# Altium integrated library motor-control.IntLib: 655 symbols (part 2 of 4)
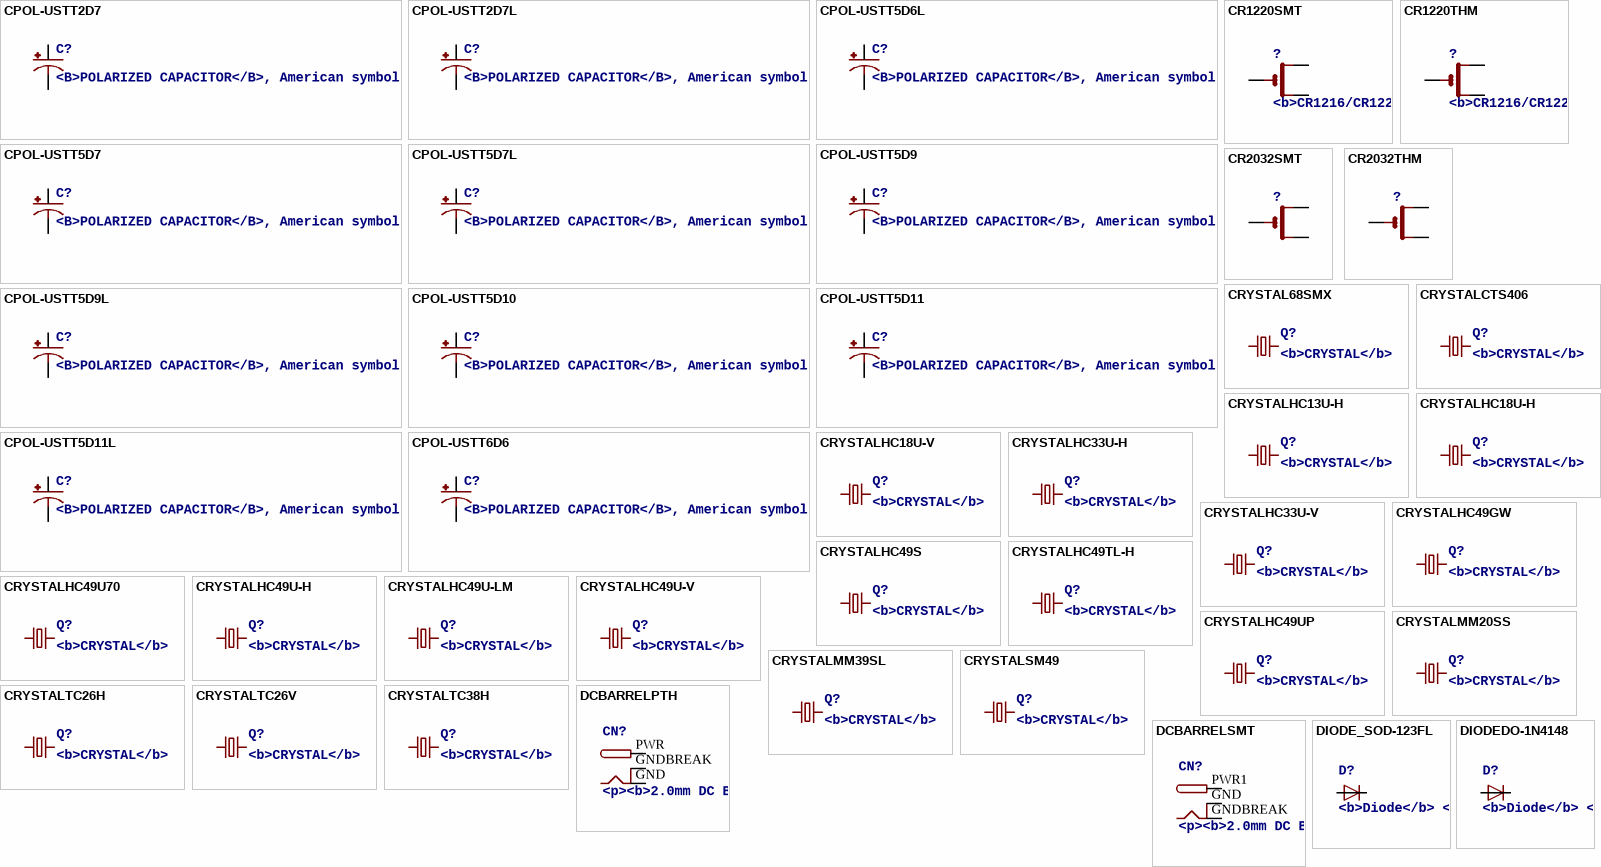
[diagram p32: symbols CPOL-USTT2D7 to DIODEDO-1N4148]

## CPOL-USTT5D11
designator C?, comment <B>POLARIZED CAPACITOR</B>, American symbol
footprint TT5D11
pins: +, -

## CPOL-USTT5D11L
designator C?, comment <B>POLARIZED CAPACITOR</B>, American symbol
footprint TT5D11L
pins: +, -

## CPOL-USTT6D6
designator C?, comment <B>POLARIZED CAPACITOR</B>, American symbol
footprint TT5D6
pins: +, -

## CR1220SMT
designator ?, comment <b>CR1216/CR1220/CR1225 12mm 3V lithium coin cell </b> / <p> / Great for battery packup. Both SMT and THM holders. / <br> / Note the THM package has the ground pads on both sides of the PCB so that the masks are the same - this reduces the cost
footprint CR1220-SMD
pins: +$1 +, +$2 +1, -

## CR1220THM
designator ?, comment <b>CR1216/CR1220/CR1225 12mm 3V lithium coin cell </b> / <p> / Great for battery packup. Both SMT and THM holders. / <br> / Note the THM package has the ground pads on both sides of the PCB so that the masks are the same - this reduces the cost
footprint CR1220-THM
pins: +1 +, +2 +1, -

## CR2032SMT
designator ?
footprint CR2032-SMD
pins: +$1 +, +$2 +1, -

## CR2032THM
designator ?
footprint CR2032-THRU
pins: +1 +, +2 +1, -

## CRYSTAL68SMX
designator Q?, comment <b>CRYSTAL</b>
OC_FARNELL: 6344860; OC_NEWARK: unknown
footprint 86SMX
pins: 1, 4 2

## CRYSTALCTS406
designator Q?, comment <b>CRYSTAL</b>
OC_FARNELL: unknown; OC_NEWARK: unknown
footprint CTS406
pins: 1, 3 2

## CRYSTALHC13U-H
designator Q?, comment <b>CRYSTAL</b>
OC_FARNELL: unknown; OC_NEWARK: unknown
footprint HC13U-H
pins: 1, 2

## CRYSTALHC18U-H
designator Q?, comment <b>CRYSTAL</b>
OC_FARNELL: unknown; OC_NEWARK: unknown
footprint HC18U-H
pins: 1, 2

## CRYSTALHC18U-V
designator Q?, comment <b>CRYSTAL</b>
OC_FARNELL: unknown; OC_NEWARK: unknown
footprint HC18U-V
pins: 1, 2

## CRYSTALHC33U-H
designator Q?, comment <b>CRYSTAL</b>
OC_FARNELL: unknown; OC_NEWARK: unknown
footprint HC33U-H
pins: 1, 2

## CRYSTALHC33U-V
designator Q?, comment <b>CRYSTAL</b>
OC_FARNELL: unknown; OC_NEWARK: unknown
footprint HC33U-V
pins: 1, 2

## CRYSTALHC49GW
designator Q?, comment <b>CRYSTAL</b>
OC_FARNELL: unknown; OC_NEWARK: unknown
footprint HC49GW
pins: 1, 2

## CRYSTALHC49S
designator Q?, comment <b>CRYSTAL</b>
OC_FARNELL: 1667008; OC_NEWARK: unknown
footprint HC49/S
pins: 1, 2

## CRYSTALHC49TL-H
designator Q?, comment <b>CRYSTAL</b>
OC_FARNELL: unknown; OC_NEWARK: unknown
footprint HC49TL-H
pins: 1, 2

## CRYSTALHC49U70
designator Q?, comment <b>CRYSTAL</b>
OC_FARNELL: unknown; OC_NEWARK: unknown
footprint HC49U70
pins: 1, 2

## CRYSTALHC49U-H
designator Q?, comment <b>CRYSTAL</b>
OC_FARNELL: 1666973; OC_NEWARK: unknown
footprint HC49U-H
pins: 1, 2

## CRYSTALHC49U-LM
designator Q?, comment <b>CRYSTAL</b>
OC_FARNELL: 1666956; OC_NEWARK: unknown
footprint HC49U-LM
pins: 1, 2

## CRYSTALHC49U-V
designator Q?, comment <b>CRYSTAL</b>
OC_FARNELL: 1666969; OC_NEWARK: unknown
footprint HC49U-V
pins: 1, 2

## CRYSTALHC49UP
designator Q?, comment <b>CRYSTAL</b>
OC_FARNELL: unknown; OC_NEWARK: unknown
footprint HC49UP
pins: 1, 2

## CRYSTALMM20SS
designator Q?, comment <b>CRYSTAL</b>
OC_FARNELL: unknown; OC_NEWARK: unknown
footprint MM20SS
pins: 1, 4 2

## CRYSTALMM39SL
designator Q?, comment <b>CRYSTAL</b>
OC_FARNELL: unknown; OC_NEWARK: unknown
footprint MM39SL
pins: 1, 4 2

## CRYSTALSM49
designator Q?, comment <b>CRYSTAL</b>
OC_FARNELL: unknown; OC_NEWARK: unknown
footprint SM49
pins: 1, 2

## CRYSTALTC26H
designator Q?, comment <b>CRYSTAL</b>
OC_FARNELL: unknown; OC_NEWARK: unknown
footprint TC26H
pins: 1, 2

## CRYSTALTC26V
designator Q?, comment <b>CRYSTAL</b>
OC_FARNELL: unknown; OC_NEWARK: unknown
footprint TC26V
pins: 1, 2

## CRYSTALTC38H
designator Q?, comment <b>CRYSTAL</b>
OC_FARNELL: unknown; OC_NEWARK: unknown
footprint TC38H
pins: 1, 2

## DCBARRELPTH
designator CN?, comment <p><b>2.0mm DC Barrel Jack</b></p> / <b>DCJACK_2MM_PTH</b> - Through Hole Jack (4UConnector: 05537)
footprint DCJACK_2MM_PTH
pins: GND (power), GNDBREAK (power), PWR (power)

## DCBARRELSMT
designator CN?, comment <p><b>2.0mm DC Barrel Jack</b></p> / <b>DCJACK_2MM_PTH</b> - Through Hole Jack (4UConnector: 05537)
footprint DCJACK_2MM_SMT
pins: GND GNDBREAK (power), GNDBREAK GND (power), PWR1 PWR (power)

## DIODE_SOD-123FL
designator D?, comment <b>Diode</b> / <p> / <b>SMADIODE</b> - SMA Surface Mount Package / <ul> / <li>20V 1A Schottky Diode Digikey: 641-1014-6-ND</li> / </ul> / <b>DO-1N4148</b> - Through Hole Small Current Diode<br> / <b>SOD-123</b> / <ul> / <li>20V 1 A (.5mV Vf) Schottky Diode - Digikey: MBRX120TPMSCT-ND</li> / </ul> / <b>SOD-323</b> / <ul> / <li>10V 570mA (.38mV Vf, 3ns) Schottky Diode - Digikey: ZLLS410CT-ND</li> / </ul> / <b>SOD-523</b> / <ul> / <li>30V 30mA Schottky Diode (RB751S-40TE61) - Digikey: RB751S-40TE61CT-ND</li> / </ul> / <b>SOT23-R/W</b> - SOT23 Package (R = Solder Paste/Reflow Ovens, W = Hand-Soldering) / <ul> / <li>BAT54Film 40V 300mA - Digikey: 497-7162-1-ND</li> / </ul> / </p>
footprint SOD-123FL
pins: A, C

## DIODEDO-1N4148
designator D?, comment <b>Diode</b> / <p> / <b>SMADIODE</b> - SMA Surface Mount Package / <ul> / <li>20V 1A Schottky Diode Digikey: 641-1014-6-ND</li> / </ul> / <b>DO-1N4148</b> - Through Hole Small Current Diode<br> / <b>SOD-123</b> / <ul> / <li>20V 1 A (.5mV Vf) Schottky Diode - Digikey: MBRX120TPMSCT-ND</li> / </ul> / <b>SOD-323</b> / <ul> / <li>10V 570mA (.38mV Vf, 3ns) Schottky Diode - Digikey: ZLLS410CT-ND</li> / </ul> / <b>SOD-523</b> / <ul> / <li>30V 30mA Schottky Diode (RB751S-40TE61) - Digikey: RB751S-40TE61CT-ND</li> / </ul> / <b>SOT23-R/W</b> - SOT23 Package (R = Solder Paste/Reflow Ovens, W = Hand-Soldering) / <ul> / <li>BAT54Film 40V 300mA - Digikey: 497-7162-1-ND</li> / </ul> / </p>
footprint DO-1N4148
pins: A, C

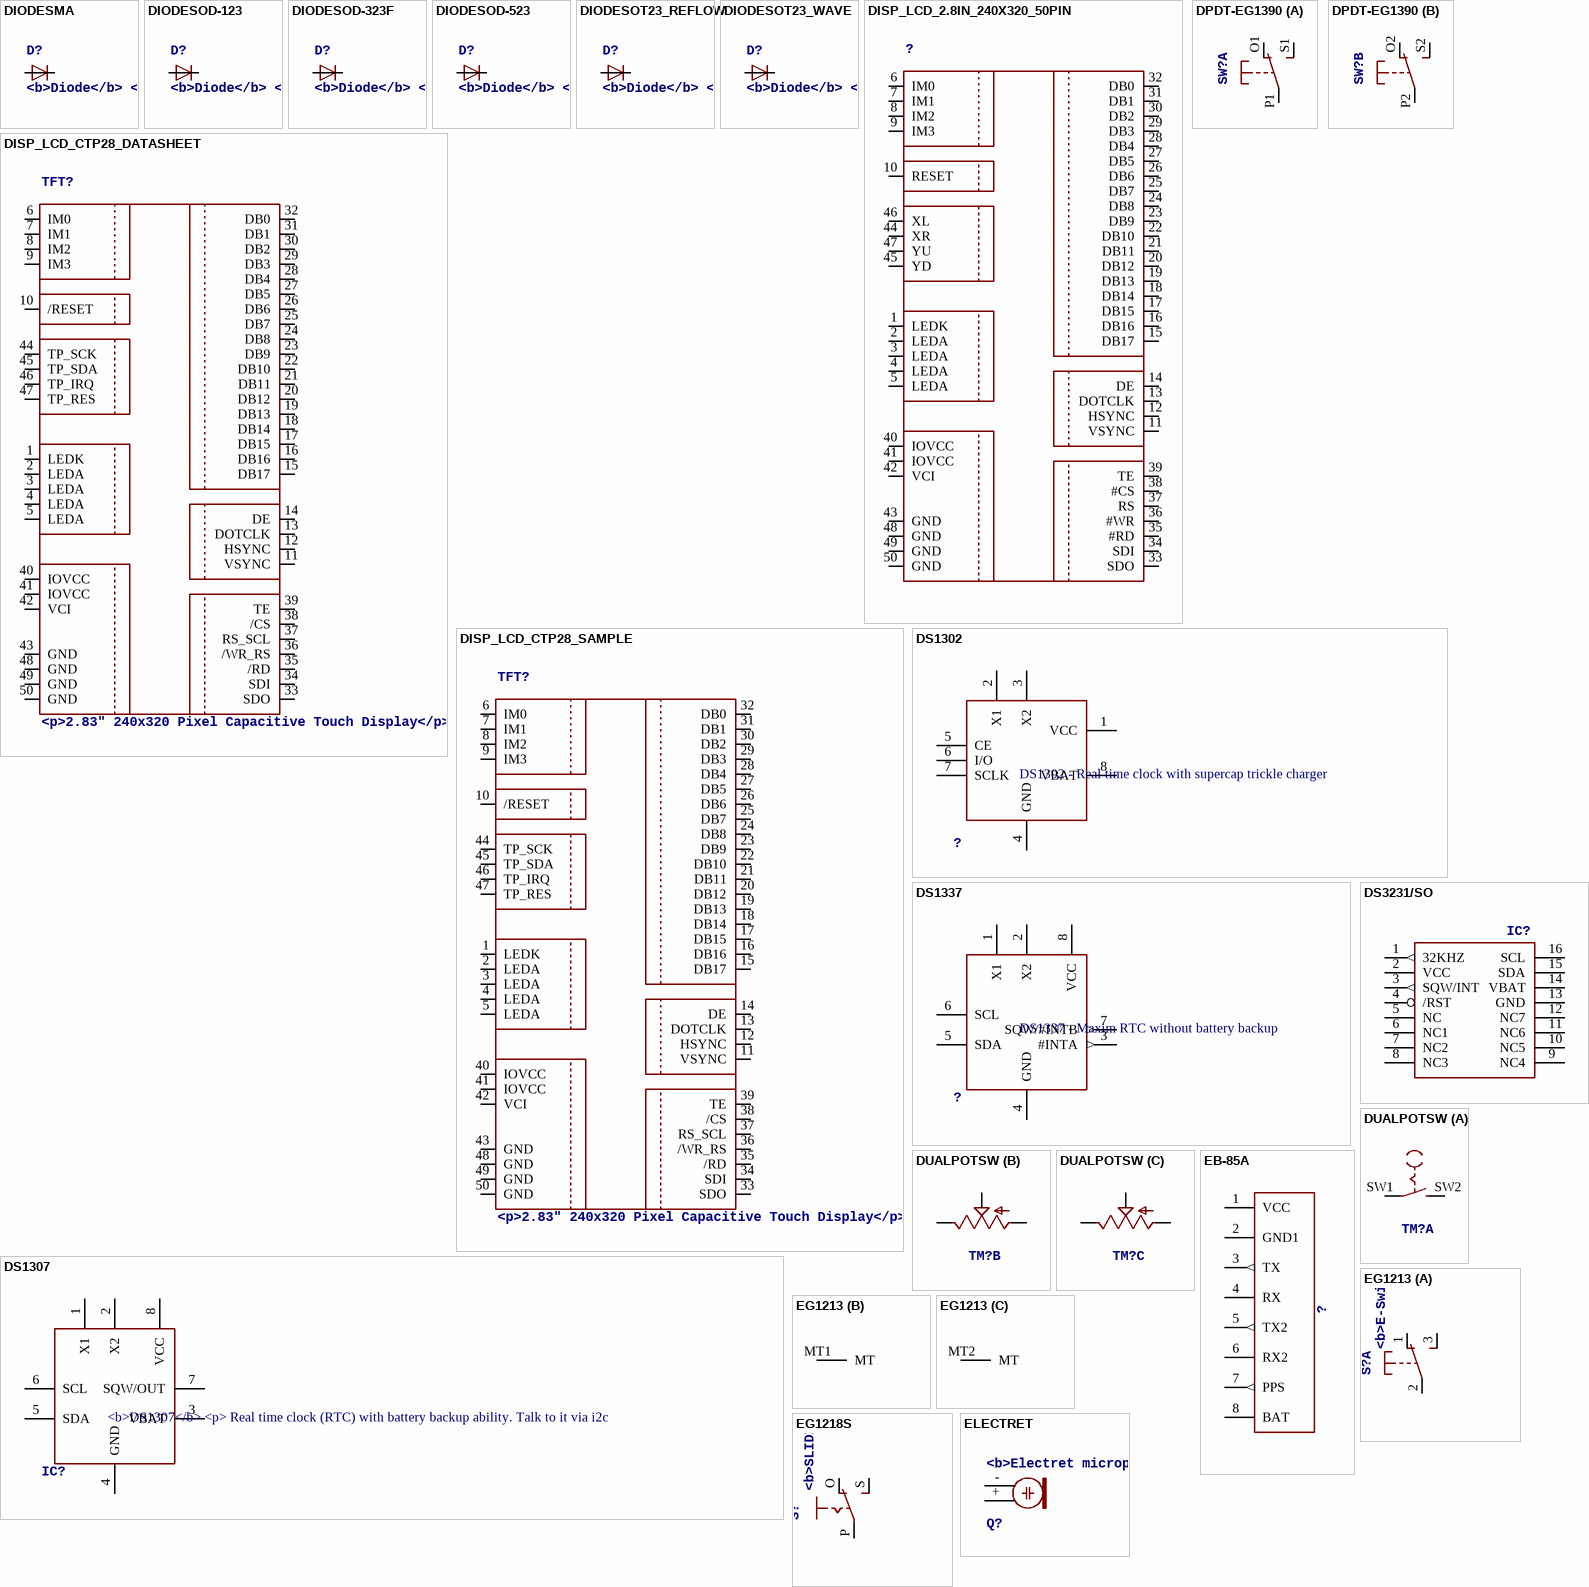
[diagram p17: symbols DIODESMA to ELECTRET]

## DIODESMA
designator D?, comment <b>Diode</b> / <p> / <b>SMADIODE</b> - SMA Surface Mount Package / <ul> / <li>20V 1A Schottky Diode Digikey: 641-1014-6-ND</li> / </ul> / <b>DO-1N4148</b> - Through Hole Small Current Diode<br> / <b>SOD-123</b> / <ul> / <li>20V 1 A (.5mV Vf) Schottky Diode - Digikey: MBRX120TPMSCT-ND</li> / </ul> / <b>SOD-323</b> / <ul> / <li>10V 570mA (.38mV Vf, 3ns) Schottky Diode - Digikey: ZLLS410CT-ND</li> / </ul> / <b>SOD-523</b> / <ul> / <li>30V 30mA Schottky Diode (RB751S-40TE61) - Digikey: RB751S-40TE61CT-ND</li> / </ul> / <b>SOT23-R/W</b> - SOT23 Package (R = Solder Paste/Reflow Ovens, W = Hand-Soldering) / <ul> / <li>BAT54Film 40V 300mA - Digikey: 497-7162-1-ND</li> / </ul> / </p>
footprint SMADIODE
pins: A, C

## DIODESOD-123
designator D?, comment <b>Diode</b> / <p> / <b>SMADIODE</b> - SMA Surface Mount Package / <ul> / <li>20V 1A Schottky Diode Digikey: 641-1014-6-ND</li> / </ul> / <b>DO-1N4148</b> - Through Hole Small Current Diode<br> / <b>SOD-123</b> / <ul> / <li>20V 1 A (.5mV Vf) Schottky Diode - Digikey: MBRX120TPMSCT-ND</li> / </ul> / <b>SOD-323</b> / <ul> / <li>10V 570mA (.38mV Vf, 3ns) Schottky Diode - Digikey: ZLLS410CT-ND</li> / </ul> / <b>SOD-523</b> / <ul> / <li>30V 30mA Schottky Diode (RB751S-40TE61) - Digikey: RB751S-40TE61CT-ND</li> / </ul> / <b>SOT23-R/W</b> - SOT23 Package (R = Solder Paste/Reflow Ovens, W = Hand-Soldering) / <ul> / <li>BAT54Film 40V 300mA - Digikey: 497-7162-1-ND</li> / </ul> / </p>
footprint SOD-123
pins: A, C

## DIODESOD-323F
designator D?, comment <b>Diode</b> / <p> / <b>SMADIODE</b> - SMA Surface Mount Package / <ul> / <li>20V 1A Schottky Diode Digikey: 641-1014-6-ND</li> / </ul> / <b>DO-1N4148</b> - Through Hole Small Current Diode<br> / <b>SOD-123</b> / <ul> / <li>20V 1 A (.5mV Vf) Schottky Diode - Digikey: MBRX120TPMSCT-ND</li> / </ul> / <b>SOD-323</b> / <ul> / <li>10V 570mA (.38mV Vf, 3ns) Schottky Diode - Digikey: ZLLS410CT-ND</li> / </ul> / <b>SOD-523</b> / <ul> / <li>30V 30mA Schottky Diode (RB751S-40TE61) - Digikey: RB751S-40TE61CT-ND</li> / </ul> / <b>SOT23-R/W</b> - SOT23 Package (R = Solder Paste/Reflow Ovens, W = Hand-Soldering) / <ul> / <li>BAT54Film 40V 300mA - Digikey: 497-7162-1-ND</li> / </ul> / </p>
footprint SOD-323F
pins: A, C

## DIODESOD-523
designator D?, comment <b>Diode</b> / <p> / <b>SMADIODE</b> - SMA Surface Mount Package / <ul> / <li>20V 1A Schottky Diode Digikey: 641-1014-6-ND</li> / </ul> / <b>DO-1N4148</b> - Through Hole Small Current Diode<br> / <b>SOD-123</b> / <ul> / <li>20V 1 A (.5mV Vf) Schottky Diode - Digikey: MBRX120TPMSCT-ND</li> / </ul> / <b>SOD-323</b> / <ul> / <li>10V 570mA (.38mV Vf, 3ns) Schottky Diode - Digikey: ZLLS410CT-ND</li> / </ul> / <b>SOD-523</b> / <ul> / <li>30V 30mA Schottky Diode (RB751S-40TE61) - Digikey: RB751S-40TE61CT-ND</li> / </ul> / <b>SOT23-R/W</b> - SOT23 Package (R = Solder Paste/Reflow Ovens, W = Hand-Soldering) / <ul> / <li>BAT54Film 40V 300mA - Digikey: 497-7162-1-ND</li> / </ul> / </p>
footprint SOD-523
pins: A, K C

## DIODESOT23_REFLOW
designator D?, comment <b>Diode</b> / <p> / <b>SMADIODE</b> - SMA Surface Mount Package / <ul> / <li>20V 1A Schottky Diode Digikey: 641-1014-6-ND</li> / </ul> / <b>DO-1N4148</b> - Through Hole Small Current Diode<br> / <b>SOD-123</b> / <ul> / <li>20V 1 A (.5mV Vf) Schottky Diode - Digikey: MBRX120TPMSCT-ND</li> / </ul> / <b>SOD-323</b> / <ul> / <li>10V 570mA (.38mV Vf, 3ns) Schottky Diode - Digikey: ZLLS410CT-ND</li> / </ul> / <b>SOD-523</b> / <ul> / <li>30V 30mA Schottky Diode (RB751S-40TE61) - Digikey: RB751S-40TE61CT-ND</li> / </ul> / <b>SOT23-R/W</b> - SOT23 Package (R = Solder Paste/Reflow Ovens, W = Hand-Soldering) / <ul> / <li>BAT54Film 40V 300mA - Digikey: 497-7162-1-ND</li> / </ul> / </p>
footprint SOT23-R
pins: 1 A, 3 C

## DIODESOT23_WAVE
designator D?, comment <b>Diode</b> / <p> / <b>SMADIODE</b> - SMA Surface Mount Package / <ul> / <li>20V 1A Schottky Diode Digikey: 641-1014-6-ND</li> / </ul> / <b>DO-1N4148</b> - Through Hole Small Current Diode<br> / <b>SOD-123</b> / <ul> / <li>20V 1 A (.5mV Vf) Schottky Diode - Digikey: MBRX120TPMSCT-ND</li> / </ul> / <b>SOD-323</b> / <ul> / <li>10V 570mA (.38mV Vf, 3ns) Schottky Diode - Digikey: ZLLS410CT-ND</li> / </ul> / <b>SOD-523</b> / <ul> / <li>30V 30mA Schottky Diode (RB751S-40TE61) - Digikey: RB751S-40TE61CT-ND</li> / </ul> / <b>SOT23-R/W</b> - SOT23 Package (R = Solder Paste/Reflow Ovens, W = Hand-Soldering) / <ul> / <li>BAT54Film 40V 300mA - Digikey: 497-7162-1-ND</li> / </ul> / </p>
footprint SOT23-W
pins: 1 A, 3 C

## DISP_LCD_2.8IN_240X320_50PIN
designator ?
footprint TFT_2.83IN_240X320_50PIN
pins: 1 LEDK, 2 LEDA, 3 LEDA, 4 LEDA, 5 LEDA, 6 IM0, 7 IM1, 8 IM2, 9 IM3, 10 RESET, 11 VSYNC, 12 HSYNC, 13 DOTCLK, 14 DE, 15 DB17, 16 DB16, 17 DB15, 18 DB14, 19 DB13, 20 DB12, 21 DB11, 22 DB10, 23 DB9, 24 DB8, 25 DB7, 26 DB6, 27 DB5, 28 DB4, 29 DB3, 30 DB2, 31 DB1, 32 DB0, 33 SDO, 34 SDI, 35 #RD, 36 #WR, 37 RS, 38 #CS, 39 TE, 40 IOVCC, 41 IOVCC, 42 VCI, 43 GND, 44 XR, 45 YD, 46 XL, 47 YU, 48 GND, 49 GND, 50 GND

## DISP_LCD_CTP28_DATASHEET
designator TFT?, comment <p>2.83" 240x320 Pixel Capacitive Touch Display</p>
footprint TFT_CTP28
pins: 1 LEDK, 2 LEDA, 3 LEDA, 4 LEDA, 5 LEDA, 6 IM0, 7 IM1, 8 IM2, 9 IM3, 10 /RESET, 11 VSYNC, 12 HSYNC, 13 DOTCLK, 14 DE, 15 DB17, 16 DB16, 17 DB15, 18 DB14, 19 DB13, 20 DB12, 21 DB11, 22 DB10, 23 DB9, 24 DB8, 25 DB7, 26 DB6, 27 DB5, 28 DB4, 29 DB3, 30 DB2, 31 DB1, 32 DB0, 33 SDO, 34 SDI, 35 /RD, 36 /WR_RS, 37 RS_SCL, 38 /CS, 39 TE, 40 IOVCC, 41 IOVCC, 42 VCI, 43 GND, 44 TP_SCK, 45 TP_SDA, 46 TP_IRQ, 47 TP_RES, 48 GND, 49 GND, 50 GND

## DISP_LCD_CTP28_SAMPLE
designator TFT?, comment <p>2.83" 240x320 Pixel Capacitive Touch Display</p>
footprint TFT_2.83IN_240X320_50PIN
pins: 1 LEDK, 2 LEDA, 3 LEDA, 4 LEDA, 5 LEDA, 6 IM0, 7 IM1, 8 IM2, 9 IM3, 10 /RESET, 11 VSYNC, 12 HSYNC, 13 DOTCLK, 14 DE, 15 DB17, 16 DB16, 17 DB15, 18 DB14, 19 DB13, 20 DB12, 21 DB11, 22 DB10, 23 DB9, 24 DB8, 25 DB7, 26 DB6, 27 DB5, 28 DB4, 29 DB3, 30 DB2, 31 DB1, 32 DB0, 33 SDO, 34 SDI, 35 /RD, 36 /WR_RS, 37 RS_SCL, 38 /CS, 39 TE, 40 IOVCC, 41 IOVCC, 42 VCI, 43 GND, 44 TP_SCK, 45 TP_SDA, 46 TP_IRQ, 47 TP_RES, 48 GND, 49 GND, 50 GND

## DPDT-EG1390
designator SW?
footprint EG1390
part A pins: O1 O, P1 P, S1 S
part B pins: O2 O, P2 P, S2 S

## DS1302
designator ?, comment DS1302 - Real time clock with supercap trickle charger
footprint DIL08-ROUND
pins: 1 VCC (power), 2 X1, 3 X2, 4 GND (power), 5 CE, 6 I/O, 7 SCLK, 8 VBAT (power)

## DS1307
designator IC?, comment <b>DS1307</b> / <p> / Real time clock (RTC) with battery backup ability. Talk to it via i2c
footprint DIL08
pins: 1 X1, 2 X2, 3 VBAT (power), 4 GND (power), 5 SDA, 6 SCL, 7 SQW/OUT, 8 VCC (power)

## DS1337
designator ?, comment DS1337 - Maxim RTC without battery backup
footprint DIL08-ROUND
pins: 1 X1, 2 X2, 3 #INTA (out), 4 GND (power), 5 SDA, 6 SCL, 7 SQW/#INTB (out), 8 VCC (power)

## DS3231/SO
designator IC?
footprint SO16W
pins: 1 32KHZ (out), 2 VCC (power), 3 SQW/INT (out), 4 /RST, 5 NC, 6 NC1, 7 NC2, 8 NC3, 9 NC4, 10 NC5, 11 NC6, 12 NC7, 13 GND (power), 14 VBAT (power), 15 SDA, 16 SCL

## DUALPOTSW
designator TM?
footprint RK0971221
part A pins: SW1 P, SW2 S
part B pins: A2 E, B2 A, W2 S
part C pins: A1 E, B1 A, W1 S

## EB-85A
designator ?
footprint JST-8POS
pins: 1 VCC (oe), 2 GND1 (oe), 3 TX (out), 4 RX, 5 TX2 (out), 6 RX2, 7 PPS (out), 8 BAT (oe)

## EG1213
designator S?, comment <b>E-Switch right-angle slide SPDT</b> Part #EG1213 / <p>http://www.ladyada.net/library/eagle</p>
footprint EG1213
part A pins: 1 O, 2 P, 3 S
part B pins: MT1 MT
part C pins: MT2 MT

## EG1218S
designator S?, comment <b>SLIDING SWITCH</b><p> / 0.1" spacing through hole, vertical SPDT slide switch / <p>http://www.ladyada.net/library/pcb/eaglelibrary.html</p>
footprint EG1218
pins: O, P, S

## ELECTRET
designator Q?, comment <b>Electret microphone</b> / <p> / Thru hole 2.54mm spacing with 9.7mm diameter
footprint 9.7ELECTRET
pins: + 2, - 1

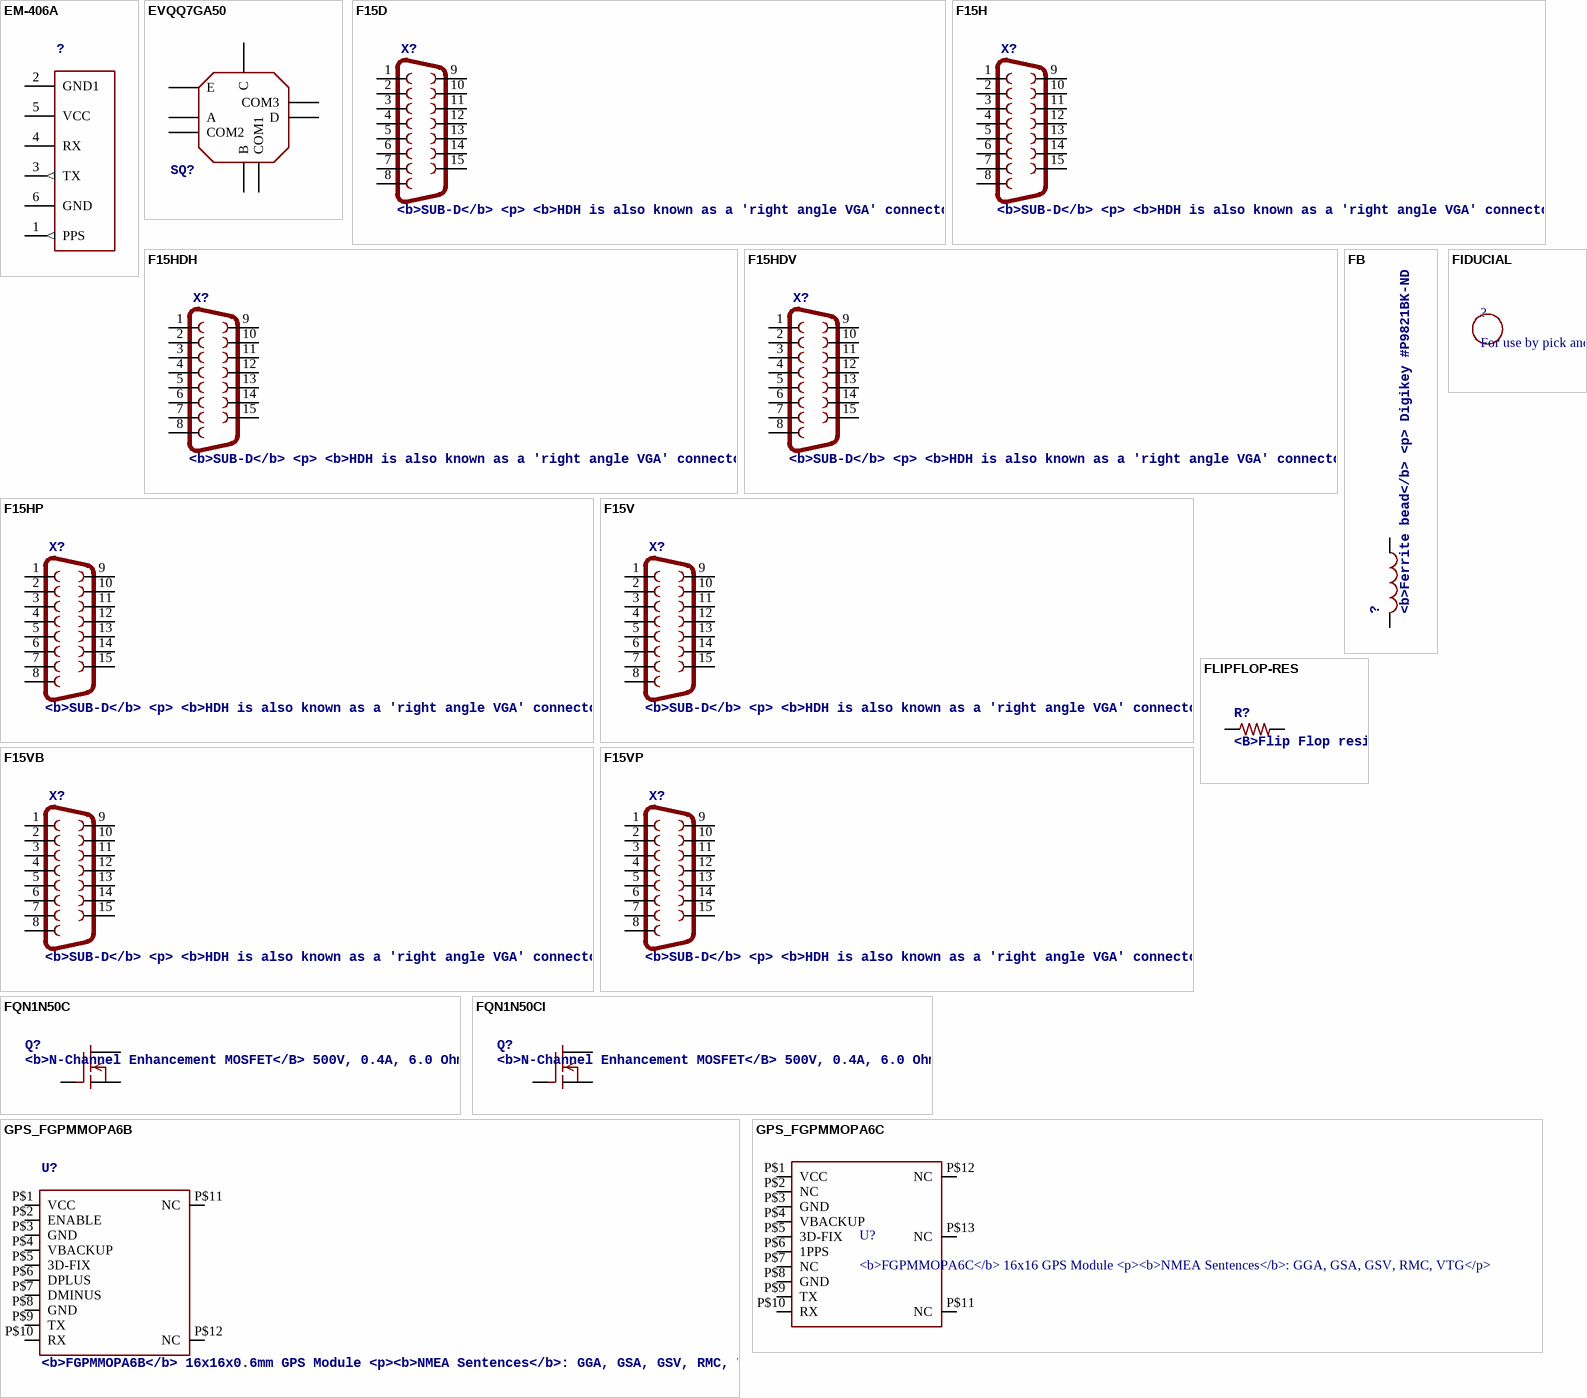
[diagram p18: symbols EM-406A to GPS_FGPMMOPA6C]

## EM-406A
designator ?
footprint JST-6POS
pins: 1 PPS (out), 2 GND1 (oe), 3 TX (out), 4 RX, 5 VCC (oe), 6 GND (oe)

## EVQQ7GA50
designator SQ?
footprint EVQQ7GA50
pins: A, B, C, COM1, COM2, COM3, D, E

## F15D
designator X?, comment <b>SUB-D</b> / <p> / <b>HDH is also known as a 'right angle VGA' connector
footprint F15D
pins: 1, 2, 3, 4, 5, 6, 7, 8, 9, 10, 11, 12, 13, 14, 15

## F15H
designator X?, comment <b>SUB-D</b> / <p> / <b>HDH is also known as a 'right angle VGA' connector
footprint F15H
pins: 1, 2, 3, 4, 5, 6, 7, 8, 9, 10, 11, 12, 13, 14, 15

## F15HDH
designator X?, comment <b>SUB-D</b> / <p> / <b>HDH is also known as a 'right angle VGA' connector
footprint HDF15H
pins: 1, 2, 3, 4, 5, 6, 7, 8, 9, 10, 11, 12, 13, 14, 15

## F15HDV
designator X?, comment <b>SUB-D</b> / <p> / <b>HDH is also known as a 'right angle VGA' connector
footprint HDF15V
pins: 1, 2, 3, 4, 5, 6, 7, 8, 9, 10, 11, 12, 13, 14, 15

## F15HP
designator X?, comment <b>SUB-D</b> / <p> / <b>HDH is also known as a 'right angle VGA' connector
footprint F15HP
pins: 1, 2, 3, 4, 5, 6, 7, 8, 9, 10, 11, 12, 13, 14, 15

## F15V
designator X?, comment <b>SUB-D</b> / <p> / <b>HDH is also known as a 'right angle VGA' connector
footprint F15V
pins: 1, 2, 3, 4, 5, 6, 7, 8, 9, 10, 11, 12, 13, 14, 15

## F15VB
designator X?, comment <b>SUB-D</b> / <p> / <b>HDH is also known as a 'right angle VGA' connector
footprint F15VB
pins: 1, 2, 3, 4, 5, 6, 7, 8, 9, 10, 11, 12, 13, 14, 15

## F15VP
designator X?, comment <b>SUB-D</b> / <p> / <b>HDH is also known as a 'right angle VGA' connector
footprint F15VP
pins: 1, 2, 3, 4, 5, 6, 7, 8, 9, 10, 11, 12, 13, 14, 15

## FB
designator ?, comment <b>Ferrite bead</b> / <p> / Digikey #P9821BK-ND
footprint FB
pins: P$1 1, P$2 2

## FIDUCIAL
designator ?, comment For use by pick and place machines to calibrate the vision/machine, 1mm / <p>By microbuilder.eu</p>
footprint FIDUCIAL_1MM

## FLIPFLOP-RES
designator R?, comment <B>Flip Flop resistor</b> / <p> / An 0805 resistor inside a standard 1/4W 5% resistor. Makes for easy mods
footprint 0805-THM
pins: 1, 2

## FQN1N50C
designator Q?, comment <b>N-Channel Enhancement MOSFET</B> 500V, 0.4A, 6.0 Ohm
footprint TO92
pins: 1 G, 2 D, 3 S

## FQN1N50CI
designator Q?, comment <b>N-Channel Enhancement MOSFET</B> 500V, 0.4A, 6.0 Ohm
footprint TO92-INLINE
pins: 1 D, 2 G, 3 S

## GPS_FGPMMOPA6B
designator U?, comment <b>FGPMMOPA6B</b> 16x16x0.6mm GPS Module / <p><b>NMEA Sentences</b>: GGA, GSA, GSV, RMC, VTG</p> / <p> / <b>General Specifications</b> / <ul> / <li><b>Chipset</b>: MTK MT3329</li> / <li><b>Baud Rate</b>: 9600bps (default)</li> / <li><b>Update Rate</b>: 1Hz (default)</li> / <li><b>Cold Start</b>: ~35s</li> / <li><b>Operating Temp</b>: -40 to 85°C</li> / </ul> / </p> / <p> / <b>DC Characteristics</b> / <ul> / <li><b>Supply Voltage</b>: 3.2-5.0V</li> / <li><b>Backup Battery Voltage</b>: 2.0-4.3V</li> / <li><b>Digital Logic (UART)</b>: 3.3V</li> / <li><b>I(Tracking)</b>: 42mA</li> / <li><b>I(Acquisition)</b>: 53mA</li> / <li><b>I(BackupBattery)</b>: 10uA</li> / </ul> / </p>
footprint FGPMMOPA6B
pins: P$1 VCC, P$2 ENABLE, P$3 GND, P$4 VBACKUP, P$5 3D-FIX, P$6 DPLUS, P$7 DMINUS, P$8 GND, P$9 TX, P$10 RX, P$11 NC, P$12 NC

## GPS_FGPMMOPA6C
designator U?, comment <b>FGPMMOPA6C</b> 16x16 GPS Module / <p><b>NMEA Sentences</b>: GGA, GSA, GSV, RMC, VTG</p>
footprint FGPMMOPA6C
pins: P$1 VCC, P$2 NC, P$3 GND, P$4 VBACKUP, P$5 3D-FIX, P$6 1PPS, P$7 NC, P$8 GND, P$9 TX, P$10 RX, P$11 NC, P$12 NC, P$13 NC

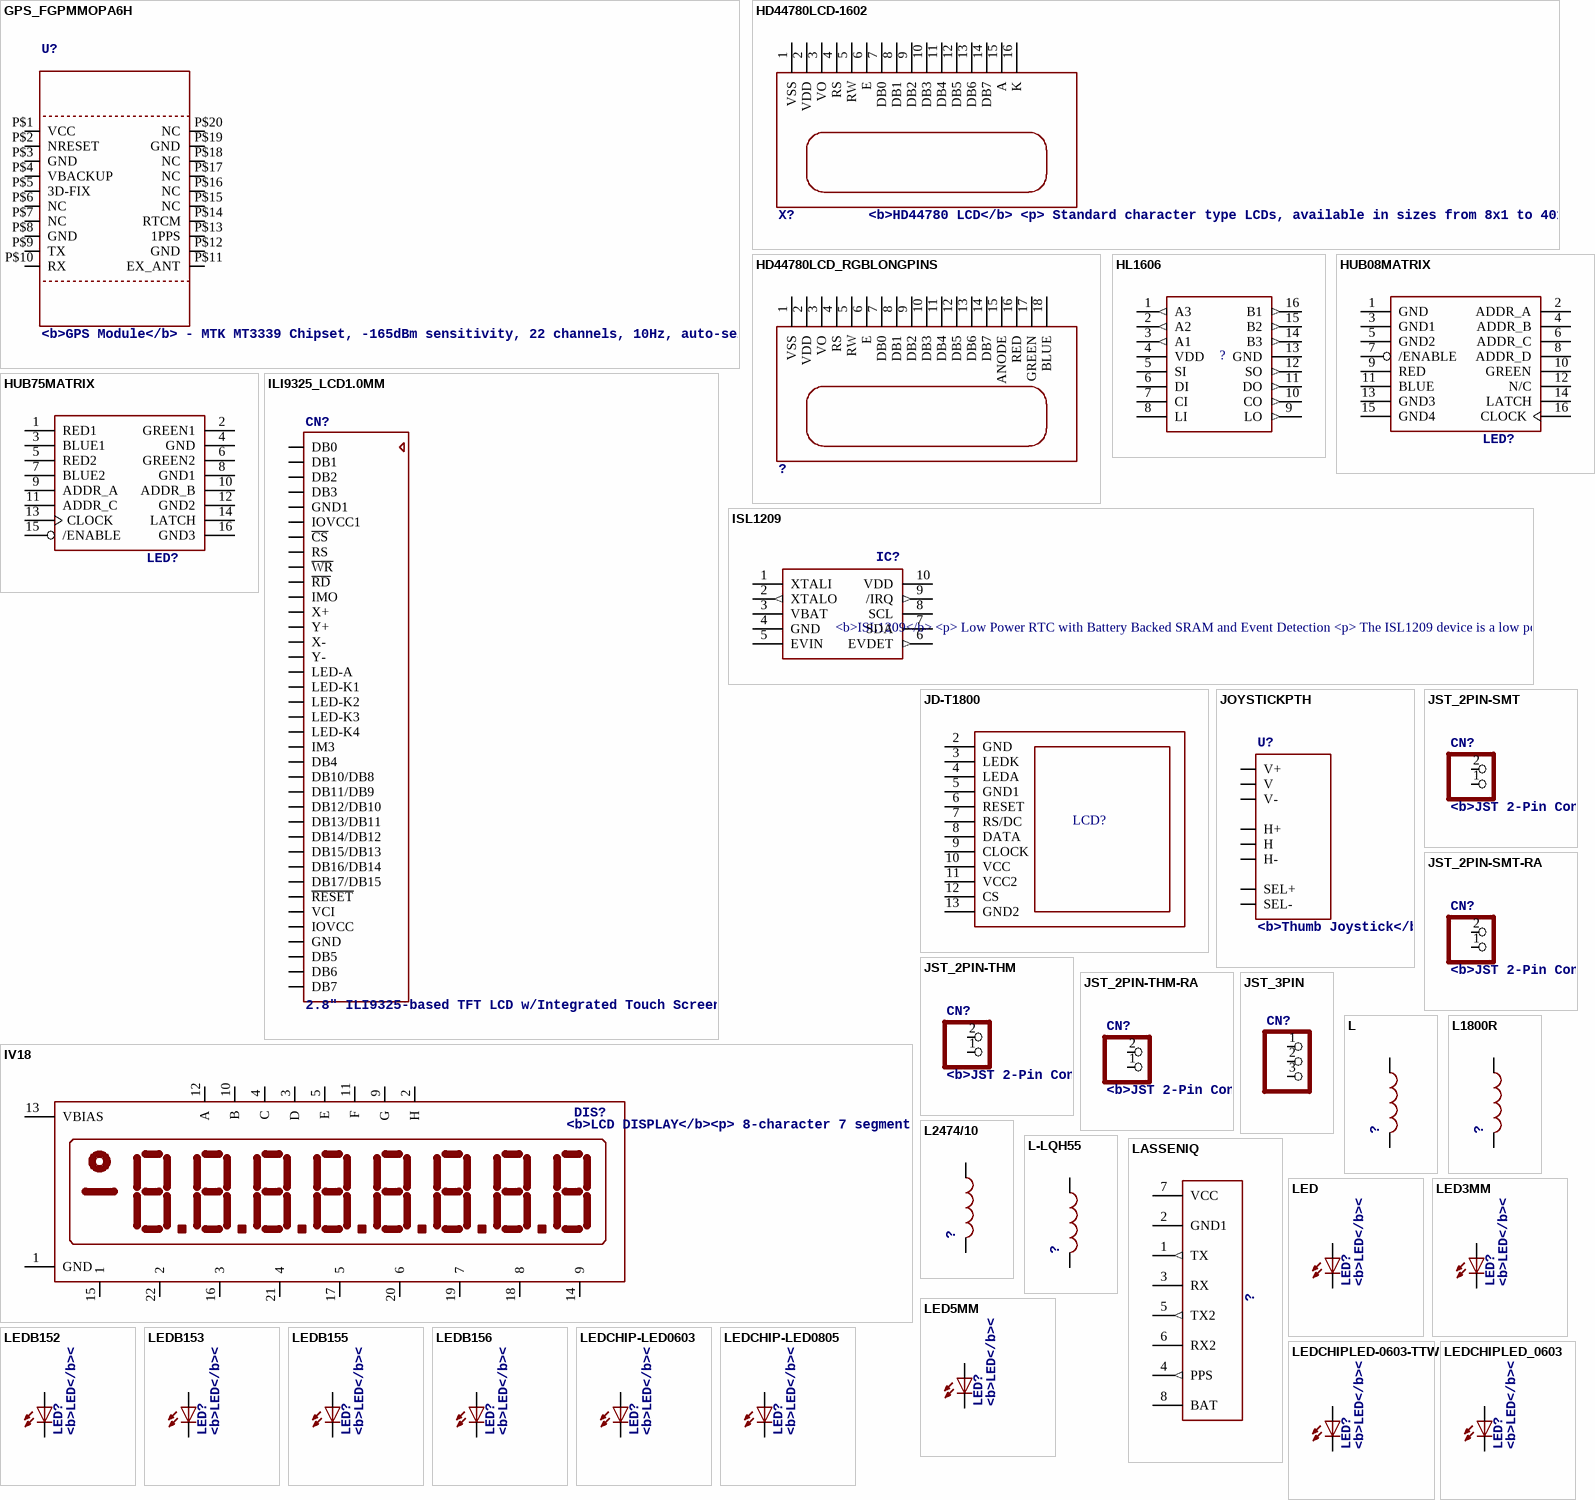
[diagram p19: symbols GPS_FGPMMOPA6H to LEDCHIPLED_0603]

## GPS_FGPMMOPA6H
designator U?, comment <b>GPS Module</b> - MTK MT3339 Chipset, -165dBm sensitivity, 22 channels, 10Hz, auto-select external antenna options
footprint FGPMMOPA6H
pins: P$1 VCC, P$2 NRESET, P$3 GND, P$4 VBACKUP, P$5 3D-FIX, P$6 NC, P$7 NC, P$8 GND, P$9 TX, P$10 RX, P$11 EX_ANT, P$12 GND, P$13 1PPS, P$14 RTCM, P$15 NC, P$16 NC, P$17 NC, P$18 NC, P$19 GND, P$20 NC

## HD44780LCD-1602
designator X?, comment <b>HD44780 LCD</b> / <p> / Standard character type LCDs, available in sizes from 8x1 to 40x4!
footprint LCD1602
pins: 1 VSS (oe), 2 VDD (oe), 3 VO, 4 RS, 5 RW, 6 E, 7 DB0, 8 DB1, 9 DB2, 10 DB3, 11 DB4, 12 DB5, 13 DB6, 14 DB7, 15 A, 16 K

## HD44780LCD_RGBLONGPINS
designator ?
footprint LCD1602-RGB
pins: 1 VSS (oe), 2 VDD (oe), 3 VO, 4 RS, 5 RW, 6 E, 7 DB0, 8 DB1, 9 DB2, 10 DB3, 11 DB4, 12 DB5, 13 DB6, 14 DB7, 15 ANODE, 16 RED, 17 GREEN, 18 BLUE

## HL1606
designator ?
footprint SO16
pins: 1 A3 (out), 2 A2 (out), 3 A1 (out), 4 VDD (power), 5 SI, 6 DI, 7 CI, 8 LI, 9 LO (out), 10 CO (out), 11 DO (out), 12 SO (out), 13 GND (power), 14 B3 (out), 15 B2 (out), 16 B1 (out)

## HUB08MATRIX
designator LED?
footprint 2X08-IDC
pins: 1 GND (power), 2 ADDR_A, 3 GND1 (power), 4 ADDR_B, 5 GND2 (power), 6 ADDR_C, 7 /ENABLE, 8 ADDR_D, 9 RED, 10 GREEN, 11 BLUE, 12 N/C, 13 GND3 (power), 14 LATCH, 15 GND4 (power), 16 CLOCK

## HUB75MATRIX
designator LED?
footprint 2X08-IDC
pins: 1 RED1, 2 GREEN1, 3 BLUE1, 4 GND (power), 5 RED2, 6 GREEN2, 7 BLUE2, 8 GND1 (power), 9 ADDR_A, 10 ADDR_B, 11 ADDR_C, 12 GND2 (power), 13 CLOCK, 14 LATCH, 15 /ENABLE, 16 GND3 (power)

## ILI9325_LCD1.0MM
designator CN?, comment 2.8" ILI9325-based TFT LCD w/Integrated Touch Screen
footprint ILI9325_28INCH_TS
pins: 1 DB0, 2 DB1, 3 DB2, 4 DB3, 5 GND1 (power), 6 IOVCC1 (power), 7 ~{CS}, 8 RS, 9 ~{WR}, 10 ~{RD}, 11 IMO, 12 X+, 13 Y+, 14 X-, 15 Y-, 16 LED-A, 17 LED-K1, 18 LED-K2, 19 LED-K3, 20 LED-K4, 21 IM3, 22 DB4, 23 DB10/DB8, 24 DB11/DB9, 25 DB12/DB10, 26 DB13/DB11, 27 DB14/DB12, 28 DB15/DB13, 29 DB16/DB14, 30 DB17/DB15, 31 ~{RESET}, 32 VCI (power), 33 IOVCC (power), 34 GND (power), 35 DB5, 36 DB6, 37 DB7

## ISL1209
designator IC?, comment <b>ISL1209</b> / <p> / Low Power RTC with Battery Backed / SRAM and Event Detection / <p> / The ISL1209 device is a low power real time clock with event / detect function, timing and crystal compensation, / clock/calendar, power fail indicator, periodic or polled alarm, / intelligent battery backup switching and battery-backed user / SRAM.
footprint MSOP10
pins: 1 XTALI, 2 XTALO (out), 3 VBAT (power), 4 GND (power), 5 EVIN, 6 EVDET (out), 7 SDA, 8 SCL, 9 /IRQ (out), 10 VDD (power)

## IV18
designator DIS?, comment <b>LCD DISPLAY</b><p> / 8-character 7 segment
footprint IV18
pins: 1 GND (oe), 2 H, 3 D, 4 C, 5 E, 9 G, 10 B, 11 F, 12 A, 13 VBIAS (oe), 14 9, 15 1, 16 3, 17 5, 18 8, 19 7, 20 6, 21 4, 22 2

## JD-T1800
designator LCD?
footprint JD-T1800
pins: 2 GND (power), 3 LEDK, 4 LEDA, 5 GND1 (power), 6 RESET, 7 RS/DC, 8 DATA, 9 CLOCK, 10 VCC (power), 11 VCC2 (power), 12 CS, 13 GND2 (power)

## JOYSTICKPTH
designator U?, comment <b>Thumb Joystick</b> / Joystick commonly found in PS2 controllers. Two pots and a select switch. Adapted from Sparkfun Library (but for more common 6mm switch sticks)
footprint JOYSTICK
pins: B1A SEL+, B2A SEL-, H1 H+, H2 H, H3 H-, V1 V+, V2 V, V3 V-

## JST_2PIN-SMT
designator CN?, comment <b>JST 2-Pin Connectors of various flavors</b> / <ul> / <li>SMT-RA (S2B-PH-SM4) 4UConnector #17311</li> / <li>SMT  (B2B-PH-SM4)</li> / <li>THM-RA (S2B-PH)</li> / <li>THM  (B2B-PH)</li> / </ul>
footprint JST-PH-2-SMT
pins: 1 2, 2 1

## JST_2PIN-SMT-RA
designator CN?, comment <b>JST 2-Pin Connectors of various flavors</b> / <ul> / <li>SMT-RA (S2B-PH-SM4) 4UConnector #17311</li> / <li>SMT  (B2B-PH-SM4)</li> / <li>THM-RA (S2B-PH)</li> / <li>THM  (B2B-PH)</li> / </ul>
footprint JST-PH-2-SMT-RA
pins: 1 2, 2 1

## JST_2PIN-THM
designator CN?, comment <b>JST 2-Pin Connectors of various flavors</b> / <ul> / <li>SMT-RA (S2B-PH-SM4) 4UConnector #17311</li> / <li>SMT  (B2B-PH-SM4)</li> / <li>THM-RA (S2B-PH)</li> / <li>THM  (B2B-PH)</li> / </ul>
footprint JST-PH-2-THM
pins: 1 2, 2 1

## JST_2PIN-THM-RA
designator CN?, comment <b>JST 2-Pin Connectors of various flavors</b> / <ul> / <li>SMT-RA (S2B-PH-SM4) 4UConnector #17311</li> / <li>SMT  (B2B-PH-SM4)</li> / <li>THM-RA (S2B-PH)</li> / <li>THM  (B2B-PH)</li> / </ul>
footprint JST-PH-2-THM-RA
pins: 1 2, 2 1

## JST_3PIN
designator CN?
footprint JSTPH3
pins: 1, 2, 3

## L
designator ?
footprint 6000
pins: 1, 2

## L1800R
designator ?
footprint 1800R
pins: 1, 2

## L2474/10
designator ?
footprint 2747
pins: P$1 1, P$2 2

## L-LQH55
designator ?
footprint LQH55
pins: 1, 2

## LASSENIQ
designator ?
footprint TRIMBLE
pins: 1 TX (out), 2 GND1 (oe), 3 RX, 4 PPS (out), 5 TX2 (out), 6 RX2, 7 VCC (oe), 8 BAT (oe)

## LED
designator LED?, comment <b>LED</b><p> / <u>OSRAM</u>:<br> / - <u>CHIPLED</u><br> / LG R971, LG N971, LY N971, LG Q971, LY Q971, LO R971, LY R971 / LH N974, LH R974<br> / LS Q976, LO Q976, LY Q976<br> / LO Q996<br> / - <u>Hyper CHIPLED</u><br> / LW Q18S<br> / LB Q993, LB Q99A, LB R99A<br> / - <u>SideLED</u><br> / LS A670, LO A670, LY A670, LG A670, LP A670<br> / LB A673, LV A673, LT A673, LW A673<br> / LH A674<br> / LY A675<br> / LS A676, LA A676, LO A676, LY A676, LW A676<br> / LS A679, LY A679, LG A679<br> / -  <u>Hyper Micro SIDELED®</u><br> / LS Y876, LA Y876, LO Y876, LY Y876<br> / LT Y87S<br> / - <u>SmartLED</u><br> / LW L88C, LW L88S<br> / LB L89C, LB L89S, LG L890<br> / LS L89K, LO L89K, LY L89K<br> / LS L896, LA L896, LO L896, LY L896<br> / - <u>TOPLED</u><br> / LS T670, LO T670, LY T670, LG T670, LP T670<br> / LSG T670, LSP T670, LSY T670, LOP T670, LYG T670<br> / LG T671, LOG T671, LSG T671<br> / LB T673, LV T673, LT T673, LW T673<br> / LH T674<br> / LS T676, LA T676, LO T676, LY T676, LB T676, LH T676, LSB T676, LW T676<br> / LB T67C, LV T67C, LT T67C, LS T67K, LO T67K, LY T67K, LW E67C<br> / LS E67B, LA E67B, LO E67B, LY E67B, LB E67C, LV E67C, LT E67C<br> / LW T67C<br> / LS T679, LY T679, LG T679<br> / LS T770, LO T770, LY T770, LG T770, LP T770<br> / LB T773, LV T773, LT T773, LW T773<br> / LH T774<br> / LS E675, LA E675, LY E675, LS T675<br> / LS T776, LA T776, LO T776, LY T776, LB T776<br> / LHGB T686<br> / LT T68C, LB T68C<br> / - <u>Hyper Mini TOPLED®</u><br> / LB M676<br> / - <u>Mini TOPLED Santana®</u><br> / LG M470<br> / LS M47K, LO M47K, LY M47K<br> / <p> / Source: http://www.osram.convergy.de/
footprint SMARTLED-TTW
pins: A@1 A, C@1 C

## LED3MM
designator LED?, comment <b>LED</b><p> / <u>OSRAM</u>:<br> / - <u>CHIPLED</u><br> / LG R971, LG N971, LY N971, LG Q971, LY Q971, LO R971, LY R971 / LH N974, LH R974<br> / LS Q976, LO Q976, LY Q976<br> / LO Q996<br> / - <u>Hyper CHIPLED</u><br> / LW Q18S<br> / LB Q993, LB Q99A, LB R99A<br> / - <u>SideLED</u><br> / LS A670, LO A670, LY A670, LG A670, LP A670<br> / LB A673, LV A673, LT A673, LW A673<br> / LH A674<br> / LY A675<br> / LS A676, LA A676, LO A676, LY A676, LW A676<br> / LS A679, LY A679, LG A679<br> / -  <u>Hyper Micro SIDELED®</u><br> / LS Y876, LA Y876, LO Y876, LY Y876<br> / LT Y87S<br> / - <u>SmartLED</u><br> / LW L88C, LW L88S<br> / LB L89C, LB L89S, LG L890<br> / LS L89K, LO L89K, LY L89K<br> / LS L896, LA L896, LO L896, LY L896<br> / - <u>TOPLED</u><br> / LS T670, LO T670, LY T670, LG T670, LP T670<br> / LSG T670, LSP T670, LSY T670, LOP T670, LYG T670<br> / LG T671, LOG T671, LSG T671<br> / LB T673, LV T673, LT T673, LW T673<br> / LH T674<br> / LS T676, LA T676, LO T676, LY T676, LB T676, LH T676, LSB T676, LW T676<br> / LB T67C, LV T67C, LT T67C, LS T67K, LO T67K, LY T67K, LW E67C<br> / LS E67B, LA E67B, LO E67B, LY E67B, LB E67C, LV E67C, LT E67C<br> / LW T67C<br> / LS T679, LY T679, LG T679<br> / LS T770, LO T770, LY T770, LG T770, LP T770<br> / LB T773, LV T773, LT T773, LW T773<br> / LH T774<br> / LS E675, LA E675, LY E675, LS T675<br> / LS T776, LA T776, LO T776, LY T776, LB T776<br> / LHGB T686<br> / LT T68C, LB T68C<br> / - <u>Hyper Mini TOPLED®</u><br> / LB M676<br> / - <u>Mini TOPLED Santana®</u><br> / LG M470<br> / LS M47K, LO M47K, LY M47K<br> / <p> / Source: http://www.osram.convergy.de/
footprint LED3MM
pins: A, K C

## LED5MM
designator LED?, comment <b>LED</b><p> / <u>OSRAM</u>:<br> / - <u>CHIPLED</u><br> / LG R971, LG N971, LY N971, LG Q971, LY Q971, LO R971, LY R971 / LH N974, LH R974<br> / LS Q976, LO Q976, LY Q976<br> / LO Q996<br> / - <u>Hyper CHIPLED</u><br> / LW Q18S<br> / LB Q993, LB Q99A, LB R99A<br> / - <u>SideLED</u><br> / LS A670, LO A670, LY A670, LG A670, LP A670<br> / LB A673, LV A673, LT A673, LW A673<br> / LH A674<br> / LY A675<br> / LS A676, LA A676, LO A676, LY A676, LW A676<br> / LS A679, LY A679, LG A679<br> / -  <u>Hyper Micro SIDELED®</u><br> / LS Y876, LA Y876, LO Y876, LY Y876<br> / LT Y87S<br> / - <u>SmartLED</u><br> / LW L88C, LW L88S<br> / LB L89C, LB L89S, LG L890<br> / LS L89K, LO L89K, LY L89K<br> / LS L896, LA L896, LO L896, LY L896<br> / - <u>TOPLED</u><br> / LS T670, LO T670, LY T670, LG T670, LP T670<br> / LSG T670, LSP T670, LSY T670, LOP T670, LYG T670<br> / LG T671, LOG T671, LSG T671<br> / LB T673, LV T673, LT T673, LW T673<br> / LH T674<br> / LS T676, LA T676, LO T676, LY T676, LB T676, LH T676, LSB T676, LW T676<br> / LB T67C, LV T67C, LT T67C, LS T67K, LO T67K, LY T67K, LW E67C<br> / LS E67B, LA E67B, LO E67B, LY E67B, LB E67C, LV E67C, LT E67C<br> / LW T67C<br> / LS T679, LY T679, LG T679<br> / LS T770, LO T770, LY T770, LG T770, LP T770<br> / LB T773, LV T773, LT T773, LW T773<br> / LH T774<br> / LS E675, LA E675, LY E675, LS T675<br> / LS T776, LA T776, LO T776, LY T776, LB T776<br> / LHGB T686<br> / LT T68C, LB T68C<br> / - <u>Hyper Mini TOPLED®</u><br> / LB M676<br> / - <u>Mini TOPLED Santana®</u><br> / LG M470<br> / LS M47K, LO M47K, LY M47K<br> / <p> / Source: http://www.osram.convergy.de/
footprint LED5MM
pins: A, K C

## LEDB152
designator LED?, comment <b>LED</b><p> / <u>OSRAM</u>:<br> / - <u>CHIPLED</u><br> / LG R971, LG N971, LY N971, LG Q971, LY Q971, LO R971, LY R971 / LH N974, LH R974<br> / LS Q976, LO Q976, LY Q976<br> / LO Q996<br> / - <u>Hyper CHIPLED</u><br> / LW Q18S<br> / LB Q993, LB Q99A, LB R99A<br> / - <u>SideLED</u><br> / LS A670, LO A670, LY A670, LG A670, LP A670<br> / LB A673, LV A673, LT A673, LW A673<br> / LH A674<br> / LY A675<br> / LS A676, LA A676, LO A676, LY A676, LW A676<br> / LS A679, LY A679, LG A679<br> / -  <u>Hyper Micro SIDELED®</u><br> / LS Y876, LA Y876, LO Y876, LY Y876<br> / LT Y87S<br> / - <u>SmartLED</u><br> / LW L88C, LW L88S<br> / LB L89C, LB L89S, LG L890<br> / LS L89K, LO L89K, LY L89K<br> / LS L896, LA L896, LO L896, LY L896<br> / - <u>TOPLED</u><br> / LS T670, LO T670, LY T670, LG T670, LP T670<br> / LSG T670, LSP T670, LSY T670, LOP T670, LYG T670<br> / LG T671, LOG T671, LSG T671<br> / LB T673, LV T673, LT T673, LW T673<br> / LH T674<br> / LS T676, LA T676, LO T676, LY T676, LB T676, LH T676, LSB T676, LW T676<br> / LB T67C, LV T67C, LT T67C, LS T67K, LO T67K, LY T67K, LW E67C<br> / LS E67B, LA E67B, LO E67B, LY E67B, LB E67C, LV E67C, LT E67C<br> / LW T67C<br> / LS T679, LY T679, LG T679<br> / LS T770, LO T770, LY T770, LG T770, LP T770<br> / LB T773, LV T773, LT T773, LW T773<br> / LH T774<br> / LS E675, LA E675, LY E675, LS T675<br> / LS T776, LA T776, LO T776, LY T776, LB T776<br> / LHGB T686<br> / LT T68C, LB T68C<br> / - <u>Hyper Mini TOPLED®</u><br> / LB M676<br> / - <u>Mini TOPLED Santana®</u><br> / LG M470<br> / LS M47K, LO M47K, LY M47K<br> / <p> / Source: http://www.osram.convergy.de/
footprint Q62902-B152
pins: A, K C

## LEDB153
designator LED?, comment <b>LED</b><p> / <u>OSRAM</u>:<br> / - <u>CHIPLED</u><br> / LG R971, LG N971, LY N971, LG Q971, LY Q971, LO R971, LY R971 / LH N974, LH R974<br> / LS Q976, LO Q976, LY Q976<br> / LO Q996<br> / - <u>Hyper CHIPLED</u><br> / LW Q18S<br> / LB Q993, LB Q99A, LB R99A<br> / - <u>SideLED</u><br> / LS A670, LO A670, LY A670, LG A670, LP A670<br> / LB A673, LV A673, LT A673, LW A673<br> / LH A674<br> / LY A675<br> / LS A676, LA A676, LO A676, LY A676, LW A676<br> / LS A679, LY A679, LG A679<br> / -  <u>Hyper Micro SIDELED®</u><br> / LS Y876, LA Y876, LO Y876, LY Y876<br> / LT Y87S<br> / - <u>SmartLED</u><br> / LW L88C, LW L88S<br> / LB L89C, LB L89S, LG L890<br> / LS L89K, LO L89K, LY L89K<br> / LS L896, LA L896, LO L896, LY L896<br> / - <u>TOPLED</u><br> / LS T670, LO T670, LY T670, LG T670, LP T670<br> / LSG T670, LSP T670, LSY T670, LOP T670, LYG T670<br> / LG T671, LOG T671, LSG T671<br> / LB T673, LV T673, LT T673, LW T673<br> / LH T674<br> / LS T676, LA T676, LO T676, LY T676, LB T676, LH T676, LSB T676, LW T676<br> / LB T67C, LV T67C, LT T67C, LS T67K, LO T67K, LY T67K, LW E67C<br> / LS E67B, LA E67B, LO E67B, LY E67B, LB E67C, LV E67C, LT E67C<br> / LW T67C<br> / LS T679, LY T679, LG T679<br> / LS T770, LO T770, LY T770, LG T770, LP T770<br> / LB T773, LV T773, LT T773, LW T773<br> / LH T774<br> / LS E675, LA E675, LY E675, LS T675<br> / LS T776, LA T776, LO T776, LY T776, LB T776<br> / LHGB T686<br> / LT T68C, LB T68C<br> / - <u>Hyper Mini TOPLED®</u><br> / LB M676<br> / - <u>Mini TOPLED Santana®</u><br> / LG M470<br> / LS M47K, LO M47K, LY M47K<br> / <p> / Source: http://www.osram.convergy.de/
footprint Q62902-B153
pins: A, K C

## LEDB155
designator LED?, comment <b>LED</b><p> / <u>OSRAM</u>:<br> / - <u>CHIPLED</u><br> / LG R971, LG N971, LY N971, LG Q971, LY Q971, LO R971, LY R971 / LH N974, LH R974<br> / LS Q976, LO Q976, LY Q976<br> / LO Q996<br> / - <u>Hyper CHIPLED</u><br> / LW Q18S<br> / LB Q993, LB Q99A, LB R99A<br> / - <u>SideLED</u><br> / LS A670, LO A670, LY A670, LG A670, LP A670<br> / LB A673, LV A673, LT A673, LW A673<br> / LH A674<br> / LY A675<br> / LS A676, LA A676, LO A676, LY A676, LW A676<br> / LS A679, LY A679, LG A679<br> / -  <u>Hyper Micro SIDELED®</u><br> / LS Y876, LA Y876, LO Y876, LY Y876<br> / LT Y87S<br> / - <u>SmartLED</u><br> / LW L88C, LW L88S<br> / LB L89C, LB L89S, LG L890<br> / LS L89K, LO L89K, LY L89K<br> / LS L896, LA L896, LO L896, LY L896<br> / - <u>TOPLED</u><br> / LS T670, LO T670, LY T670, LG T670, LP T670<br> / LSG T670, LSP T670, LSY T670, LOP T670, LYG T670<br> / LG T671, LOG T671, LSG T671<br> / LB T673, LV T673, LT T673, LW T673<br> / LH T674<br> / LS T676, LA T676, LO T676, LY T676, LB T676, LH T676, LSB T676, LW T676<br> / LB T67C, LV T67C, LT T67C, LS T67K, LO T67K, LY T67K, LW E67C<br> / LS E67B, LA E67B, LO E67B, LY E67B, LB E67C, LV E67C, LT E67C<br> / LW T67C<br> / LS T679, LY T679, LG T679<br> / LS T770, LO T770, LY T770, LG T770, LP T770<br> / LB T773, LV T773, LT T773, LW T773<br> / LH T774<br> / LS E675, LA E675, LY E675, LS T675<br> / LS T776, LA T776, LO T776, LY T776, LB T776<br> / LHGB T686<br> / LT T68C, LB T68C<br> / - <u>Hyper Mini TOPLED®</u><br> / LB M676<br> / - <u>Mini TOPLED Santana®</u><br> / LG M470<br> / LS M47K, LO M47K, LY M47K<br> / <p> / Source: http://www.osram.convergy.de/
footprint Q62902-B155
pins: A, K C

## LEDB156
designator LED?, comment <b>LED</b><p> / <u>OSRAM</u>:<br> / - <u>CHIPLED</u><br> / LG R971, LG N971, LY N971, LG Q971, LY Q971, LO R971, LY R971 / LH N974, LH R974<br> / LS Q976, LO Q976, LY Q976<br> / LO Q996<br> / - <u>Hyper CHIPLED</u><br> / LW Q18S<br> / LB Q993, LB Q99A, LB R99A<br> / - <u>SideLED</u><br> / LS A670, LO A670, LY A670, LG A670, LP A670<br> / LB A673, LV A673, LT A673, LW A673<br> / LH A674<br> / LY A675<br> / LS A676, LA A676, LO A676, LY A676, LW A676<br> / LS A679, LY A679, LG A679<br> / -  <u>Hyper Micro SIDELED®</u><br> / LS Y876, LA Y876, LO Y876, LY Y876<br> / LT Y87S<br> / - <u>SmartLED</u><br> / LW L88C, LW L88S<br> / LB L89C, LB L89S, LG L890<br> / LS L89K, LO L89K, LY L89K<br> / LS L896, LA L896, LO L896, LY L896<br> / - <u>TOPLED</u><br> / LS T670, LO T670, LY T670, LG T670, LP T670<br> / LSG T670, LSP T670, LSY T670, LOP T670, LYG T670<br> / LG T671, LOG T671, LSG T671<br> / LB T673, LV T673, LT T673, LW T673<br> / LH T674<br> / LS T676, LA T676, LO T676, LY T676, LB T676, LH T676, LSB T676, LW T676<br> / LB T67C, LV T67C, LT T67C, LS T67K, LO T67K, LY T67K, LW E67C<br> / LS E67B, LA E67B, LO E67B, LY E67B, LB E67C, LV E67C, LT E67C<br> / LW T67C<br> / LS T679, LY T679, LG T679<br> / LS T770, LO T770, LY T770, LG T770, LP T770<br> / LB T773, LV T773, LT T773, LW T773<br> / LH T774<br> / LS E675, LA E675, LY E675, LS T675<br> / LS T776, LA T776, LO T776, LY T776, LB T776<br> / LHGB T686<br> / LT T68C, LB T68C<br> / - <u>Hyper Mini TOPLED®</u><br> / LB M676<br> / - <u>Mini TOPLED Santana®</u><br> / LG M470<br> / LS M47K, LO M47K, LY M47K<br> / <p> / Source: http://www.osram.convergy.de/
footprint Q62902-B156
pins: A, K C

## LEDCHIP-LED0603
designator LED?, comment <b>LED</b><p> / <u>OSRAM</u>:<br> / - <u>CHIPLED</u><br> / LG R971, LG N971, LY N971, LG Q971, LY Q971, LO R971, LY R971 / LH N974, LH R974<br> / LS Q976, LO Q976, LY Q976<br> / LO Q996<br> / - <u>Hyper CHIPLED</u><br> / LW Q18S<br> / LB Q993, LB Q99A, LB R99A<br> / - <u>SideLED</u><br> / LS A670, LO A670, LY A670, LG A670, LP A670<br> / LB A673, LV A673, LT A673, LW A673<br> / LH A674<br> / LY A675<br> / LS A676, LA A676, LO A676, LY A676, LW A676<br> / LS A679, LY A679, LG A679<br> / -  <u>Hyper Micro SIDELED®</u><br> / LS Y876, LA Y876, LO Y876, LY Y876<br> / LT Y87S<br> / - <u>SmartLED</u><br> / LW L88C, LW L88S<br> / LB L89C, LB L89S, LG L890<br> / LS L89K, LO L89K, LY L89K<br> / LS L896, LA L896, LO L896, LY L896<br> / - <u>TOPLED</u><br> / LS T670, LO T670, LY T670, LG T670, LP T670<br> / LSG T670, LSP T670, LSY T670, LOP T670, LYG T670<br> / LG T671, LOG T671, LSG T671<br> / LB T673, LV T673, LT T673, LW T673<br> / LH T674<br> / LS T676, LA T676, LO T676, LY T676, LB T676, LH T676, LSB T676, LW T676<br> / LB T67C, LV T67C, LT T67C, LS T67K, LO T67K, LY T67K, LW E67C<br> / LS E67B, LA E67B, LO E67B, LY E67B, LB E67C, LV E67C, LT E67C<br> / LW T67C<br> / LS T679, LY T679, LG T679<br> / LS T770, LO T770, LY T770, LG T770, LP T770<br> / LB T773, LV T773, LT T773, LW T773<br> / LH T774<br> / LS E675, LA E675, LY E675, LS T675<br> / LS T776, LA T776, LO T776, LY T776, LB T776<br> / LHGB T686<br> / LT T68C, LB T68C<br> / - <u>Hyper Mini TOPLED®</u><br> / LB M676<br> / - <u>Mini TOPLED Santana®</u><br> / LG M470<br> / LS M47K, LO M47K, LY M47K<br> / <p> / Source: http://www.osram.convergy.de/
footprint CHIP-LED0603
pins: A, C

## LEDCHIP-LED0805
designator LED?, comment <b>LED</b><p> / <u>OSRAM</u>:<br> / - <u>CHIPLED</u><br> / LG R971, LG N971, LY N971, LG Q971, LY Q971, LO R971, LY R971 / LH N974, LH R974<br> / LS Q976, LO Q976, LY Q976<br> / LO Q996<br> / - <u>Hyper CHIPLED</u><br> / LW Q18S<br> / LB Q993, LB Q99A, LB R99A<br> / - <u>SideLED</u><br> / LS A670, LO A670, LY A670, LG A670, LP A670<br> / LB A673, LV A673, LT A673, LW A673<br> / LH A674<br> / LY A675<br> / LS A676, LA A676, LO A676, LY A676, LW A676<br> / LS A679, LY A679, LG A679<br> / -  <u>Hyper Micro SIDELED®</u><br> / LS Y876, LA Y876, LO Y876, LY Y876<br> / LT Y87S<br> / - <u>SmartLED</u><br> / LW L88C, LW L88S<br> / LB L89C, LB L89S, LG L890<br> / LS L89K, LO L89K, LY L89K<br> / LS L896, LA L896, LO L896, LY L896<br> / - <u>TOPLED</u><br> / LS T670, LO T670, LY T670, LG T670, LP T670<br> / LSG T670, LSP T670, LSY T670, LOP T670, LYG T670<br> / LG T671, LOG T671, LSG T671<br> / LB T673, LV T673, LT T673, LW T673<br> / LH T674<br> / LS T676, LA T676, LO T676, LY T676, LB T676, LH T676, LSB T676, LW T676<br> / LB T67C, LV T67C, LT T67C, LS T67K, LO T67K, LY T67K, LW E67C<br> / LS E67B, LA E67B, LO E67B, LY E67B, LB E67C, LV E67C, LT E67C<br> / LW T67C<br> / LS T679, LY T679, LG T679<br> / LS T770, LO T770, LY T770, LG T770, LP T770<br> / LB T773, LV T773, LT T773, LW T773<br> / LH T774<br> / LS E675, LA E675, LY E675, LS T675<br> / LS T776, LA T776, LO T776, LY T776, LB T776<br> / LHGB T686<br> / LT T68C, LB T68C<br> / - <u>Hyper Mini TOPLED®</u><br> / LB M676<br> / - <u>Mini TOPLED Santana®</u><br> / LG M470<br> / LS M47K, LO M47K, LY M47K<br> / <p> / Source: http://www.osram.convergy.de/
footprint CHIP-LED0805
pins: A, C

## LEDCHIPLED-0603-TTW
designator LED?, comment <b>LED</b><p> / <u>OSRAM</u>:<br> / - <u>CHIPLED</u><br> / LG R971, LG N971, LY N971, LG Q971, LY Q971, LO R971, LY R971 / LH N974, LH R974<br> / LS Q976, LO Q976, LY Q976<br> / LO Q996<br> / - <u>Hyper CHIPLED</u><br> / LW Q18S<br> / LB Q993, LB Q99A, LB R99A<br> / - <u>SideLED</u><br> / LS A670, LO A670, LY A670, LG A670, LP A670<br> / LB A673, LV A673, LT A673, LW A673<br> / LH A674<br> / LY A675<br> / LS A676, LA A676, LO A676, LY A676, LW A676<br> / LS A679, LY A679, LG A679<br> / -  <u>Hyper Micro SIDELED®</u><br> / LS Y876, LA Y876, LO Y876, LY Y876<br> / LT Y87S<br> / - <u>SmartLED</u><br> / LW L88C, LW L88S<br> / LB L89C, LB L89S, LG L890<br> / LS L89K, LO L89K, LY L89K<br> / LS L896, LA L896, LO L896, LY L896<br> / - <u>TOPLED</u><br> / LS T670, LO T670, LY T670, LG T670, LP T670<br> / LSG T670, LSP T670, LSY T670, LOP T670, LYG T670<br> / LG T671, LOG T671, LSG T671<br> / LB T673, LV T673, LT T673, LW T673<br> / LH T674<br> / LS T676, LA T676, LO T676, LY T676, LB T676, LH T676, LSB T676, LW T676<br> / LB T67C, LV T67C, LT T67C, LS T67K, LO T67K, LY T67K, LW E67C<br> / LS E67B, LA E67B, LO E67B, LY E67B, LB E67C, LV E67C, LT E67C<br> / LW T67C<br> / LS T679, LY T679, LG T679<br> / LS T770, LO T770, LY T770, LG T770, LP T770<br> / LB T773, LV T773, LT T773, LW T773<br> / LH T774<br> / LS E675, LA E675, LY E675, LS T675<br> / LS T776, LA T776, LO T776, LY T776, LB T776<br> / LHGB T686<br> / LT T68C, LB T68C<br> / - <u>Hyper Mini TOPLED®</u><br> / LB M676<br> / - <u>Mini TOPLED Santana®</u><br> / LG M470<br> / LS M47K, LO M47K, LY M47K<br> / <p> / Source: http://www.osram.convergy.de/
footprint CHIPLED-0603-TTW
pins: A@1 A, C@1 C

## LEDCHIPLED_0603
designator LED?, comment <b>LED</b><p> / <u>OSRAM</u>:<br> / - <u>CHIPLED</u><br> / LG R971, LG N971, LY N971, LG Q971, LY Q971, LO R971, LY R971 / LH N974, LH R974<br> / LS Q976, LO Q976, LY Q976<br> / LO Q996<br> / - <u>Hyper CHIPLED</u><br> / LW Q18S<br> / LB Q993, LB Q99A, LB R99A<br> / - <u>SideLED</u><br> / LS A670, LO A670, LY A670, LG A670, LP A670<br> / LB A673, LV A673, LT A673, LW A673<br> / LH A674<br> / LY A675<br> / LS A676, LA A676, LO A676, LY A676, LW A676<br> / LS A679, LY A679, LG A679<br> / -  <u>Hyper Micro SIDELED®</u><br> / LS Y876, LA Y876, LO Y876, LY Y876<br> / LT Y87S<br> / - <u>SmartLED</u><br> / LW L88C, LW L88S<br> / LB L89C, LB L89S, LG L890<br> / LS L89K, LO L89K, LY L89K<br> / LS L896, LA L896, LO L896, LY L896<br> / - <u>TOPLED</u><br> / LS T670, LO T670, LY T670, LG T670, LP T670<br> / LSG T670, LSP T670, LSY T670, LOP T670, LYG T670<br> / LG T671, LOG T671, LSG T671<br> / LB T673, LV T673, LT T673, LW T673<br> / LH T674<br> / LS T676, LA T676, LO T676, LY T676, LB T676, LH T676, LSB T676, LW T676<br> / LB T67C, LV T67C, LT T67C, LS T67K, LO T67K, LY T67K, LW E67C<br> / LS E67B, LA E67B, LO E67B, LY E67B, LB E67C, LV E67C, LT E67C<br> / LW T67C<br> / LS T679, LY T679, LG T679<br> / LS T770, LO T770, LY T770, LG T770, LP T770<br> / LB T773, LV T773, LT T773, LW T773<br> / LH T774<br> / LS E675, LA E675, LY E675, LS T675<br> / LS T776, LA T776, LO T776, LY T776, LB T776<br> / LHGB T686<br> / LT T68C, LB T68C<br> / - <u>Hyper Mini TOPLED®</u><br> / LB M676<br> / - <u>Mini TOPLED Santana®</u><br> / LG M470<br> / LS M47K, LO M47K, LY M47K<br> / <p> / Source: http://www.osram.convergy.de/
footprint CHIPLED_0603
pins: A, C

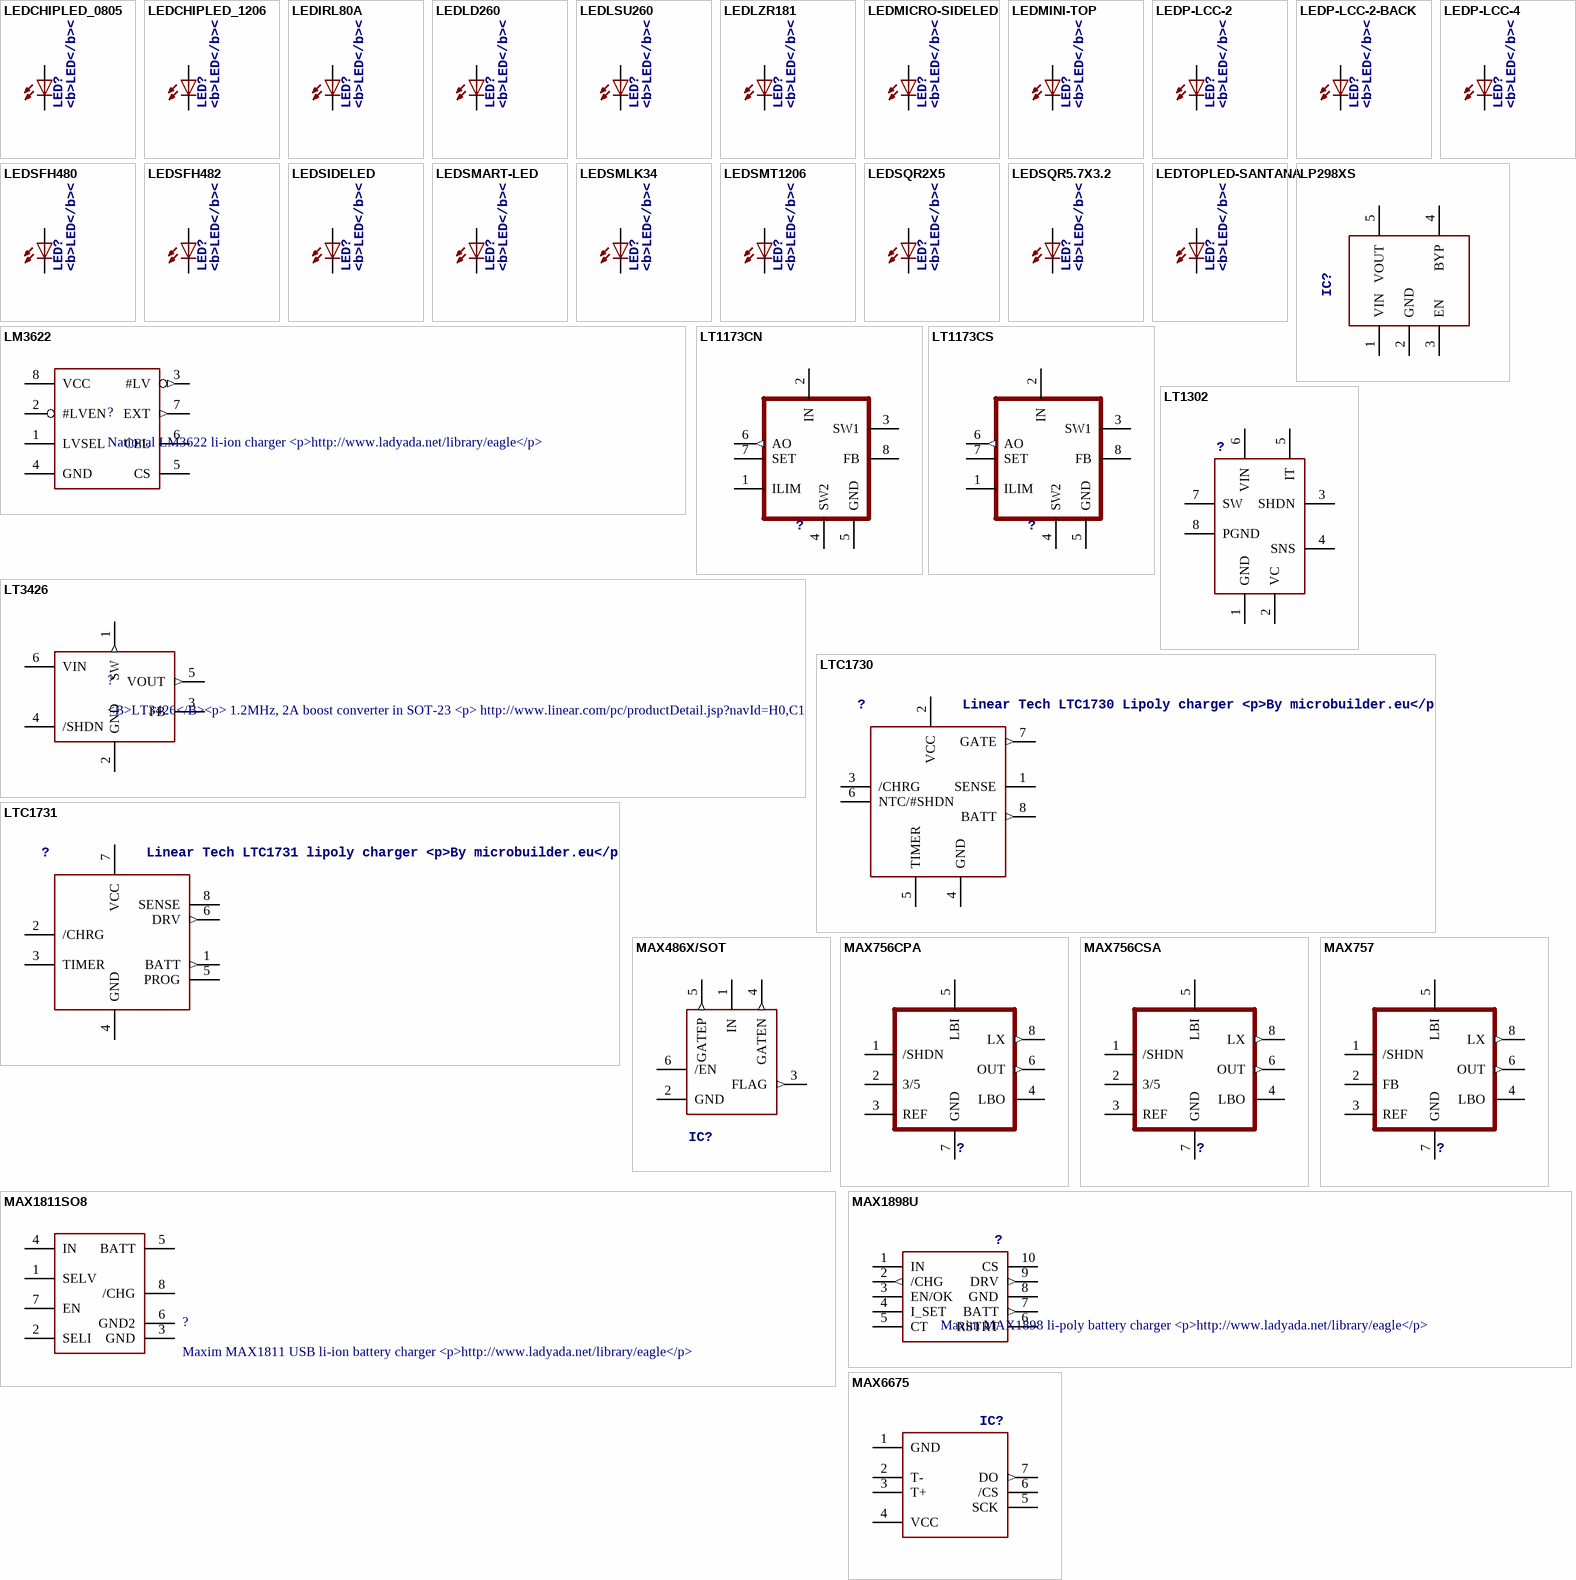
[diagram p20: symbols LEDCHIPLED_0805 to MAX6675]

## LEDCHIPLED_0805
designator LED?, comment <b>LED</b><p> / <u>OSRAM</u>:<br> / - <u>CHIPLED</u><br> / LG R971, LG N971, LY N971, LG Q971, LY Q971, LO R971, LY R971 / LH N974, LH R974<br> / LS Q976, LO Q976, LY Q976<br> / LO Q996<br> / - <u>Hyper CHIPLED</u><br> / LW Q18S<br> / LB Q993, LB Q99A, LB R99A<br> / - <u>SideLED</u><br> / LS A670, LO A670, LY A670, LG A670, LP A670<br> / LB A673, LV A673, LT A673, LW A673<br> / LH A674<br> / LY A675<br> / LS A676, LA A676, LO A676, LY A676, LW A676<br> / LS A679, LY A679, LG A679<br> / -  <u>Hyper Micro SIDELED®</u><br> / LS Y876, LA Y876, LO Y876, LY Y876<br> / LT Y87S<br> / - <u>SmartLED</u><br> / LW L88C, LW L88S<br> / LB L89C, LB L89S, LG L890<br> / LS L89K, LO L89K, LY L89K<br> / LS L896, LA L896, LO L896, LY L896<br> / - <u>TOPLED</u><br> / LS T670, LO T670, LY T670, LG T670, LP T670<br> / LSG T670, LSP T670, LSY T670, LOP T670, LYG T670<br> / LG T671, LOG T671, LSG T671<br> / LB T673, LV T673, LT T673, LW T673<br> / LH T674<br> / LS T676, LA T676, LO T676, LY T676, LB T676, LH T676, LSB T676, LW T676<br> / LB T67C, LV T67C, LT T67C, LS T67K, LO T67K, LY T67K, LW E67C<br> / LS E67B, LA E67B, LO E67B, LY E67B, LB E67C, LV E67C, LT E67C<br> / LW T67C<br> / LS T679, LY T679, LG T679<br> / LS T770, LO T770, LY T770, LG T770, LP T770<br> / LB T773, LV T773, LT T773, LW T773<br> / LH T774<br> / LS E675, LA E675, LY E675, LS T675<br> / LS T776, LA T776, LO T776, LY T776, LB T776<br> / LHGB T686<br> / LT T68C, LB T68C<br> / - <u>Hyper Mini TOPLED®</u><br> / LB M676<br> / - <u>Mini TOPLED Santana®</u><br> / LG M470<br> / LS M47K, LO M47K, LY M47K<br> / <p> / Source: http://www.osram.convergy.de/
footprint CHIPLED_0805
pins: A, C

## LEDCHIPLED_1206
designator LED?, comment <b>LED</b><p> / <u>OSRAM</u>:<br> / - <u>CHIPLED</u><br> / LG R971, LG N971, LY N971, LG Q971, LY Q971, LO R971, LY R971 / LH N974, LH R974<br> / LS Q976, LO Q976, LY Q976<br> / LO Q996<br> / - <u>Hyper CHIPLED</u><br> / LW Q18S<br> / LB Q993, LB Q99A, LB R99A<br> / - <u>SideLED</u><br> / LS A670, LO A670, LY A670, LG A670, LP A670<br> / LB A673, LV A673, LT A673, LW A673<br> / LH A674<br> / LY A675<br> / LS A676, LA A676, LO A676, LY A676, LW A676<br> / LS A679, LY A679, LG A679<br> / -  <u>Hyper Micro SIDELED®</u><br> / LS Y876, LA Y876, LO Y876, LY Y876<br> / LT Y87S<br> / - <u>SmartLED</u><br> / LW L88C, LW L88S<br> / LB L89C, LB L89S, LG L890<br> / LS L89K, LO L89K, LY L89K<br> / LS L896, LA L896, LO L896, LY L896<br> / - <u>TOPLED</u><br> / LS T670, LO T670, LY T670, LG T670, LP T670<br> / LSG T670, LSP T670, LSY T670, LOP T670, LYG T670<br> / LG T671, LOG T671, LSG T671<br> / LB T673, LV T673, LT T673, LW T673<br> / LH T674<br> / LS T676, LA T676, LO T676, LY T676, LB T676, LH T676, LSB T676, LW T676<br> / LB T67C, LV T67C, LT T67C, LS T67K, LO T67K, LY T67K, LW E67C<br> / LS E67B, LA E67B, LO E67B, LY E67B, LB E67C, LV E67C, LT E67C<br> / LW T67C<br> / LS T679, LY T679, LG T679<br> / LS T770, LO T770, LY T770, LG T770, LP T770<br> / LB T773, LV T773, LT T773, LW T773<br> / LH T774<br> / LS E675, LA E675, LY E675, LS T675<br> / LS T776, LA T776, LO T776, LY T776, LB T776<br> / LHGB T686<br> / LT T68C, LB T68C<br> / - <u>Hyper Mini TOPLED®</u><br> / LB M676<br> / - <u>Mini TOPLED Santana®</u><br> / LG M470<br> / LS M47K, LO M47K, LY M47K<br> / <p> / Source: http://www.osram.convergy.de/
footprint CHIPLED_1206
pins: A, C

## LEDIRL80A
designator LED?, comment <b>LED</b><p> / <u>OSRAM</u>:<br> / - <u>CHIPLED</u><br> / LG R971, LG N971, LY N971, LG Q971, LY Q971, LO R971, LY R971 / LH N974, LH R974<br> / LS Q976, LO Q976, LY Q976<br> / LO Q996<br> / - <u>Hyper CHIPLED</u><br> / LW Q18S<br> / LB Q993, LB Q99A, LB R99A<br> / - <u>SideLED</u><br> / LS A670, LO A670, LY A670, LG A670, LP A670<br> / LB A673, LV A673, LT A673, LW A673<br> / LH A674<br> / LY A675<br> / LS A676, LA A676, LO A676, LY A676, LW A676<br> / LS A679, LY A679, LG A679<br> / -  <u>Hyper Micro SIDELED®</u><br> / LS Y876, LA Y876, LO Y876, LY Y876<br> / LT Y87S<br> / - <u>SmartLED</u><br> / LW L88C, LW L88S<br> / LB L89C, LB L89S, LG L890<br> / LS L89K, LO L89K, LY L89K<br> / LS L896, LA L896, LO L896, LY L896<br> / - <u>TOPLED</u><br> / LS T670, LO T670, LY T670, LG T670, LP T670<br> / LSG T670, LSP T670, LSY T670, LOP T670, LYG T670<br> / LG T671, LOG T671, LSG T671<br> / LB T673, LV T673, LT T673, LW T673<br> / LH T674<br> / LS T676, LA T676, LO T676, LY T676, LB T676, LH T676, LSB T676, LW T676<br> / LB T67C, LV T67C, LT T67C, LS T67K, LO T67K, LY T67K, LW E67C<br> / LS E67B, LA E67B, LO E67B, LY E67B, LB E67C, LV E67C, LT E67C<br> / LW T67C<br> / LS T679, LY T679, LG T679<br> / LS T770, LO T770, LY T770, LG T770, LP T770<br> / LB T773, LV T773, LT T773, LW T773<br> / LH T774<br> / LS E675, LA E675, LY E675, LS T675<br> / LS T776, LA T776, LO T776, LY T776, LB T776<br> / LHGB T686<br> / LT T68C, LB T68C<br> / - <u>Hyper Mini TOPLED®</u><br> / LB M676<br> / - <u>Mini TOPLED Santana®</u><br> / LG M470<br> / LS M47K, LO M47K, LY M47K<br> / <p> / Source: http://www.osram.convergy.de/
footprint IRL80A
pins: A, K C

## LEDLD260
designator LED?, comment <b>LED</b><p> / <u>OSRAM</u>:<br> / - <u>CHIPLED</u><br> / LG R971, LG N971, LY N971, LG Q971, LY Q971, LO R971, LY R971 / LH N974, LH R974<br> / LS Q976, LO Q976, LY Q976<br> / LO Q996<br> / - <u>Hyper CHIPLED</u><br> / LW Q18S<br> / LB Q993, LB Q99A, LB R99A<br> / - <u>SideLED</u><br> / LS A670, LO A670, LY A670, LG A670, LP A670<br> / LB A673, LV A673, LT A673, LW A673<br> / LH A674<br> / LY A675<br> / LS A676, LA A676, LO A676, LY A676, LW A676<br> / LS A679, LY A679, LG A679<br> / -  <u>Hyper Micro SIDELED®</u><br> / LS Y876, LA Y876, LO Y876, LY Y876<br> / LT Y87S<br> / - <u>SmartLED</u><br> / LW L88C, LW L88S<br> / LB L89C, LB L89S, LG L890<br> / LS L89K, LO L89K, LY L89K<br> / LS L896, LA L896, LO L896, LY L896<br> / - <u>TOPLED</u><br> / LS T670, LO T670, LY T670, LG T670, LP T670<br> / LSG T670, LSP T670, LSY T670, LOP T670, LYG T670<br> / LG T671, LOG T671, LSG T671<br> / LB T673, LV T673, LT T673, LW T673<br> / LH T674<br> / LS T676, LA T676, LO T676, LY T676, LB T676, LH T676, LSB T676, LW T676<br> / LB T67C, LV T67C, LT T67C, LS T67K, LO T67K, LY T67K, LW E67C<br> / LS E67B, LA E67B, LO E67B, LY E67B, LB E67C, LV E67C, LT E67C<br> / LW T67C<br> / LS T679, LY T679, LG T679<br> / LS T770, LO T770, LY T770, LG T770, LP T770<br> / LB T773, LV T773, LT T773, LW T773<br> / LH T774<br> / LS E675, LA E675, LY E675, LS T675<br> / LS T776, LA T776, LO T776, LY T776, LB T776<br> / LHGB T686<br> / LT T68C, LB T68C<br> / - <u>Hyper Mini TOPLED®</u><br> / LB M676<br> / - <u>Mini TOPLED Santana®</u><br> / LG M470<br> / LS M47K, LO M47K, LY M47K<br> / <p> / Source: http://www.osram.convergy.de/
footprint LD260
pins: A, K C

## LEDLSU260
designator LED?, comment <b>LED</b><p> / <u>OSRAM</u>:<br> / - <u>CHIPLED</u><br> / LG R971, LG N971, LY N971, LG Q971, LY Q971, LO R971, LY R971 / LH N974, LH R974<br> / LS Q976, LO Q976, LY Q976<br> / LO Q996<br> / - <u>Hyper CHIPLED</u><br> / LW Q18S<br> / LB Q993, LB Q99A, LB R99A<br> / - <u>SideLED</u><br> / LS A670, LO A670, LY A670, LG A670, LP A670<br> / LB A673, LV A673, LT A673, LW A673<br> / LH A674<br> / LY A675<br> / LS A676, LA A676, LO A676, LY A676, LW A676<br> / LS A679, LY A679, LG A679<br> / -  <u>Hyper Micro SIDELED®</u><br> / LS Y876, LA Y876, LO Y876, LY Y876<br> / LT Y87S<br> / - <u>SmartLED</u><br> / LW L88C, LW L88S<br> / LB L89C, LB L89S, LG L890<br> / LS L89K, LO L89K, LY L89K<br> / LS L896, LA L896, LO L896, LY L896<br> / - <u>TOPLED</u><br> / LS T670, LO T670, LY T670, LG T670, LP T670<br> / LSG T670, LSP T670, LSY T670, LOP T670, LYG T670<br> / LG T671, LOG T671, LSG T671<br> / LB T673, LV T673, LT T673, LW T673<br> / LH T674<br> / LS T676, LA T676, LO T676, LY T676, LB T676, LH T676, LSB T676, LW T676<br> / LB T67C, LV T67C, LT T67C, LS T67K, LO T67K, LY T67K, LW E67C<br> / LS E67B, LA E67B, LO E67B, LY E67B, LB E67C, LV E67C, LT E67C<br> / LW T67C<br> / LS T679, LY T679, LG T679<br> / LS T770, LO T770, LY T770, LG T770, LP T770<br> / LB T773, LV T773, LT T773, LW T773<br> / LH T774<br> / LS E675, LA E675, LY E675, LS T675<br> / LS T776, LA T776, LO T776, LY T776, LB T776<br> / LHGB T686<br> / LT T68C, LB T68C<br> / - <u>Hyper Mini TOPLED®</u><br> / LB M676<br> / - <u>Mini TOPLED Santana®</u><br> / LG M470<br> / LS M47K, LO M47K, LY M47K<br> / <p> / Source: http://www.osram.convergy.de/
footprint LSU260
pins: A, K C